# Altium schematic symbol library Symbol_Vlad.SchLib: 330 symbols (part 2 of 3)
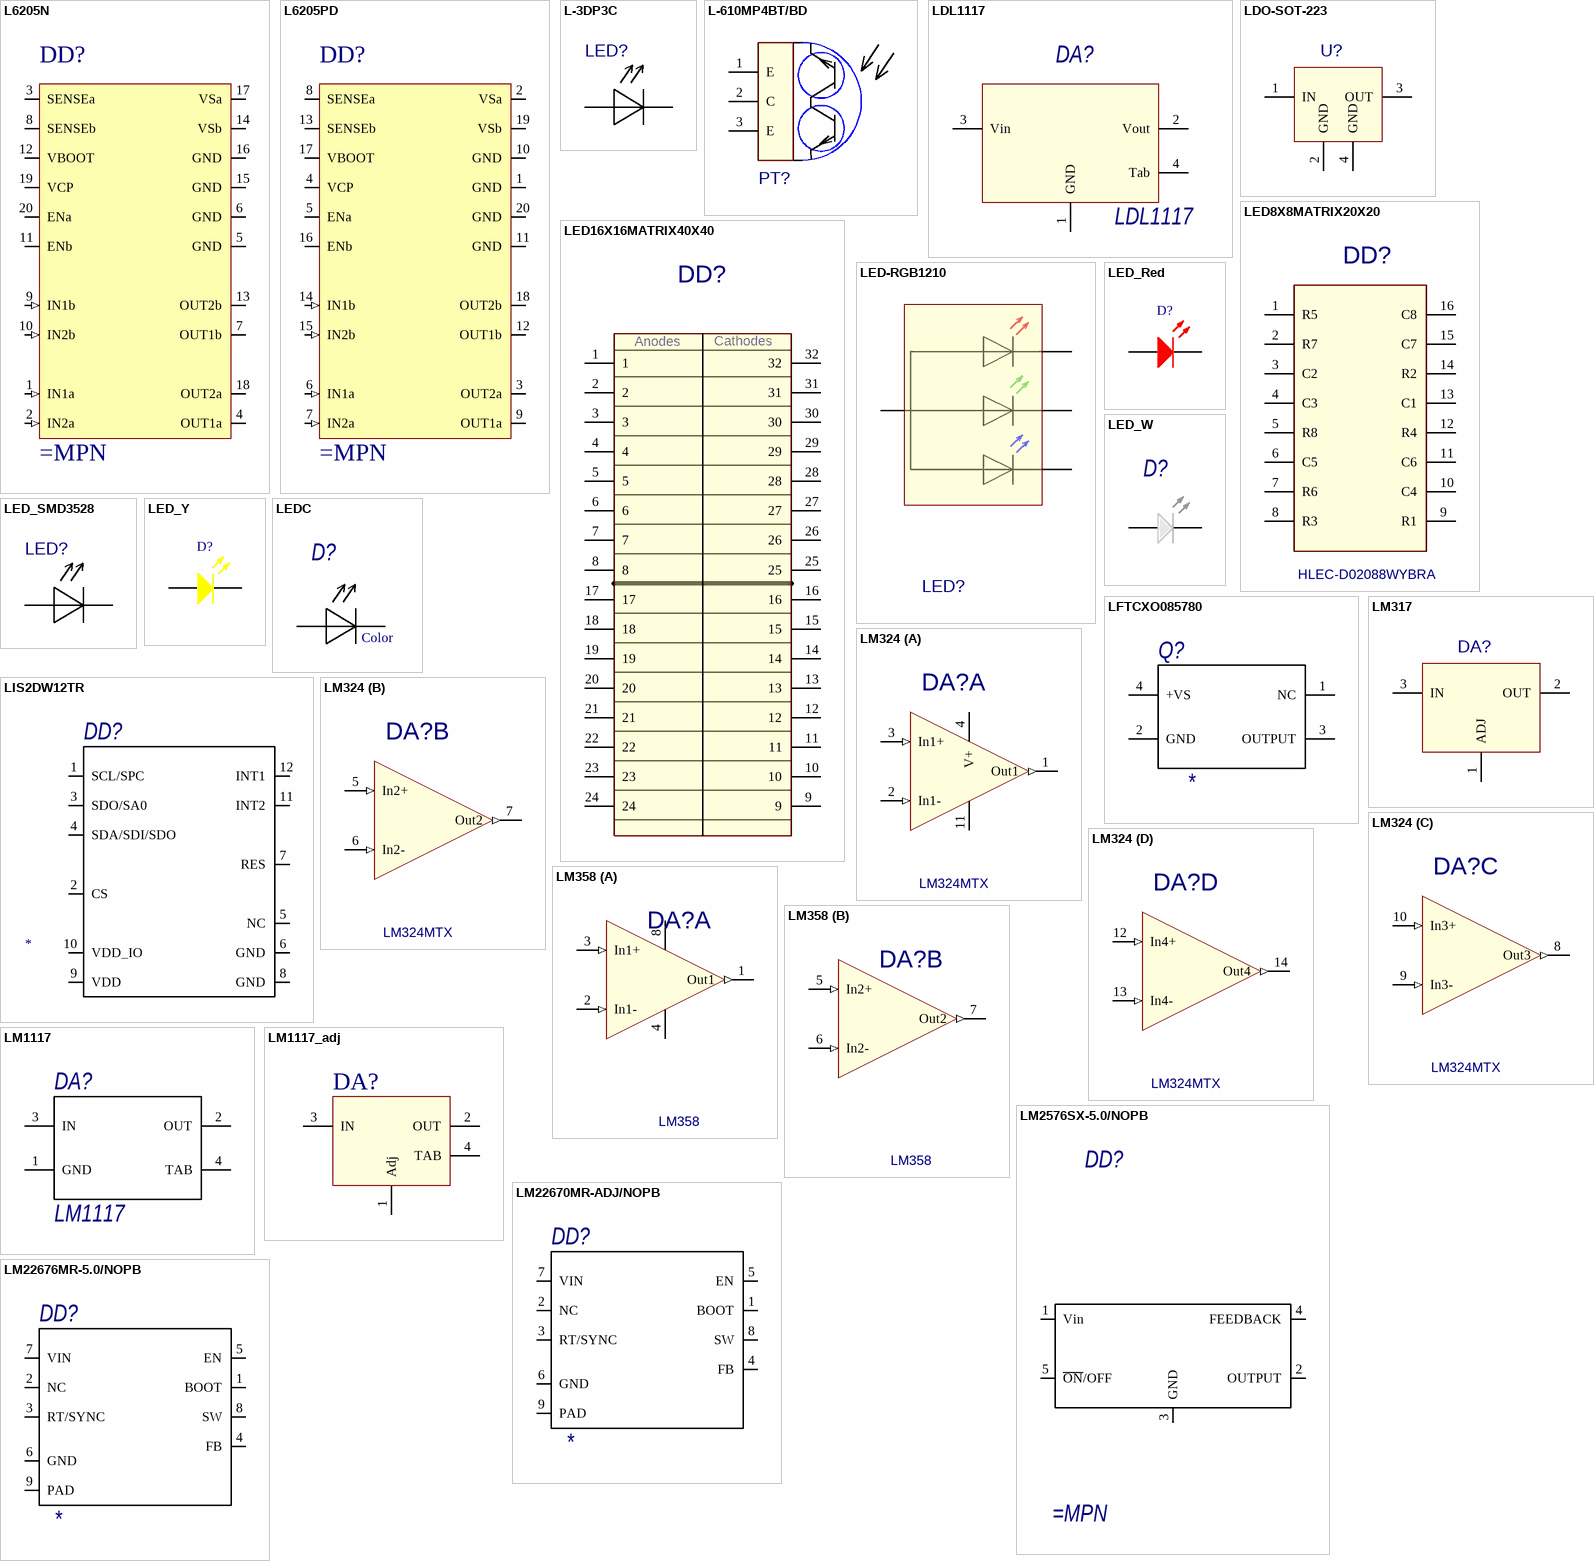
[diagram p30: symbols L6205N to LM22676MR-5.0/NOPB]

## LDL1117
designator DA?
pins: 1 GND, 2 Vout, 3 Vin, 4 Tab

## LDO-SOT-223
designator U?
MntType: SMD; BOMDescription: SMD LDO SOT-223; MSL: MSL 1; Package: SOT-223; RoHS: Comply; PartType: LDO; Pins: 3
footprint SOT-223
pins: 1 IN, 2 GND, 3 OUT, 4 GND

## LED8X8MATRIX20X20
designator DD?, comment HLEC-D02088WYBRA
Manufacturer: HLEC.com.cn; MntType: DIP; BOMDescription: DIP LED MATRIX LED8X8MATRIX20X20     HLEC-D02088WYBRA; MPN: HLEC-D02088WYBRA; MSL: MSL 5; Package: LED8X8MATRIX20X20; RoHS: Comply; PartType: LED MATRIX
footprint LED8X8MATRIX20X20
pins: 1 R5, 2 R7, 3 C2, 4 C3, 5 R8, 6 C5, 7 R6, 8 R3, 9 R1, 10 C4, 11 C6, 12 R4, 13 C1, 14 R2, 15 C7, 16 C8

## LED16X16MATRIX40X40
designator DD?
MntType: DIP; BOMDescription: DIP LED MATRIX LED16X16MATRIX40X40; MSL: MSL 5; Package: LED16X16MATRIX40X40; RoHS: Comply; PartType: LED MATRIX
footprint LED16X16MATRIX40X40
pins: 1, 2, 3, 4, 5, 6, 7, 8, 9, 10, 11, 12, 13, 14, 15, 16, 17, 18, 19, 20, 21, 22, 23, 24, 25, 26, 27, 28, 29, 30, 31, 32
text: Anodes; Cathodes

## LED-RGB1210
designator LED?
MntType: SMD; BOMDescription: SMD CHIP LED LEDC1210; MSL: MSL 5; Package: LEDC1210; RoHS: Comply; PartType: CHIP LED; Pins: 6
footprint LED_1210RGB
pins: 1 A, 2 R, 3 G, 4 B

## LED_Red
designator D?
Typical GaAs LED
pins: 1 A, 2 K

## LED_SMD3528
designator LED?
MntType: SMD; BOMDescription: SMD CHIP LED LEDC3528; MSL: MSL 5; Package: LEDC3528; RoHS: Comply; PartType: CHIP LED; Pins: 2
footprint LED_SMD3528
pins: 1, 2

## LED_W
designator D?
Typical GaAs LED
pins: 1 A, 2 K

## LED_Y
designator D?
Typical GaAs LED
pins: 1 A, 2 K

## LEDC
designator D?, comment Color
MntType: SMD; MSL: MSL 5; RoHS: Comply; PartType: CHIP LED; Pins: 2; BOMDescription: =MntType+' '+PartType+' '+Package+' '+Value+' '+Tolerance+' '+Voltage+' '+TempCoeff+' '+MPN; Value: Color
footprint LED603
footprint LED0805
pins: 1 A, 2 K

## LFTCXO085780
designator Q?
No Description Available; MPN: *; Datasheet: *
footprint LFTCXO_IQD
pins: 1 NC, 2 GND (power), 3 OUTPUT, 4 +VS (power)

## LIS2DW12TR
designator DD?
pins: 1 SCL/SPC, 2 CS "SPI enable I2C/SPI mode selection (1: SPI idle mode / I2C communication enabled; 0: SPI communication mode / I2C disabled)", 3 SDO/SA0, 4 SDA/SDI/SDO, 5 NC "Connect to GND", 6 GND (power) "0 V supply", 7 RES (power) "0 V supply", 8 GND (power) "0 V supply", 9 VDD (power) "Power supply", 10 VDD_IO (power) "Power supply for I/O pins", 11 INT2 "Interrupt pin 2", 12 INT1 "Interrupt pin 1"

## LM317
designator DA?  (value not drawn)
MntType: SMD; BOMDescription: SMD LDO      LM317; MPN: LM317; MSL: MSL 1; RoHS: Comply; PartType: LDO
footprint PLS3
pins: 1 ADJ, 2 OUT, 3 IN

## LM324
designator DA?, comment LM324MTX
MntType: SMD; BOMDescription: SMD INSTRUMENTAL OPAMP TSSOP14     LM324MTX; MPN: LM324MTX; MSL: MSL 1; Package: TSSOP14; RoHS: Comply; PartType: INSTRUMENTAL OPAMP; Pins: 8
footprint TSOP65P640X120-14L (TSOP, 14-Leads, Body 5.00x4.40mm, Pitch 0.65mm, IPC High Density)
footprint SOIC-14 (SOIC, 14-Leads, Body 8.65x3.90mm, Pitch 1.27mm, IPC High Density)
part A pins: 1 Out1 (out), 2 In1- (in), 3 In1+ (in), 4 V+ (power), 11 GND (power)
part B pins: 5 In2+ (in), 6 In2- (in), 7 Out2 (out)
part C pins: 8 Out3 (out), 9 In3- (in), 10 In3+ (in)
part D pins: 12 In4+ (in), 13 In4- (in), 14 Out4 (out)

## LM358
designator DA?
MntType: SMD; BOMDescription: SMD INSTRUMENTAL OPAMP TSSOP14     LM358; MPN: LM358; MSL: MSL 1; Package: TSSOP14; RoHS: Comply; PartType: INSTRUMENTAL OPAMP; Pins: 8
footprint TSOP65P640X120-8L (TSOP, 8-Leads, Body 3.00x4.40mm, Pitch 0.65mm, IPC High Density)
part A pins: 1 Out1 (out), 2 In1- (in), 3 In1+ (in), 4 GND (power), 8 V+ (power)
part B pins: 5 In2+ (in), 6 In2- (in), 7 Out2 (out)

## LM1117
designator DA?
MntType: SMD; BOMDescription: =MntType+' '+PartType+' '+Package+' '+Value+' '+Tolerance+' '+Voltage+' '+TempCoeff+' '+MPN; MPN: LM1117; MSL: MSL 1; PartType: LDO; Pins: 4; RoHS: Comply
pins: 1 GND, 2 OUT, 3 IN, 4 TAB

## LM1117_adj
designator DA?
MPN: LM1117; MntType: SMD; BOMDescription: =MntType+' '+PartType+' '+Package+' '+Value+' '+Tolerance+' '+Voltage+' '+TempCoeff+' '+MPN; MSL: MSL 1; PartType: LDO; Pins: 4; RoHS: Comply
pins: 1 Adj, 2 OUT, 3 IN, 4 TAB

## LM2576SX-5.0/NOPB
designator DD?
pins: 1 Vin, 2 OUTPUT, 3 GND, 4 FEEDBACK, 5 ~{ON}/OFF

## LM22670MR-ADJ/NOPB
designator DD?
pins: 1 BOOT, 2 NC, 3 RT/SYNC, 4 FB, 5 EN, 6 GND, 7 VIN, 8 SW, 9 PAD

## LM22676MR-5.0/NOPB
designator DD?
pins: 1 BOOT, 2 NC, 3 RT/SYNC, 4 FB, 5 EN, 6 GND, 7 VIN, 8 SW, 9 PAD

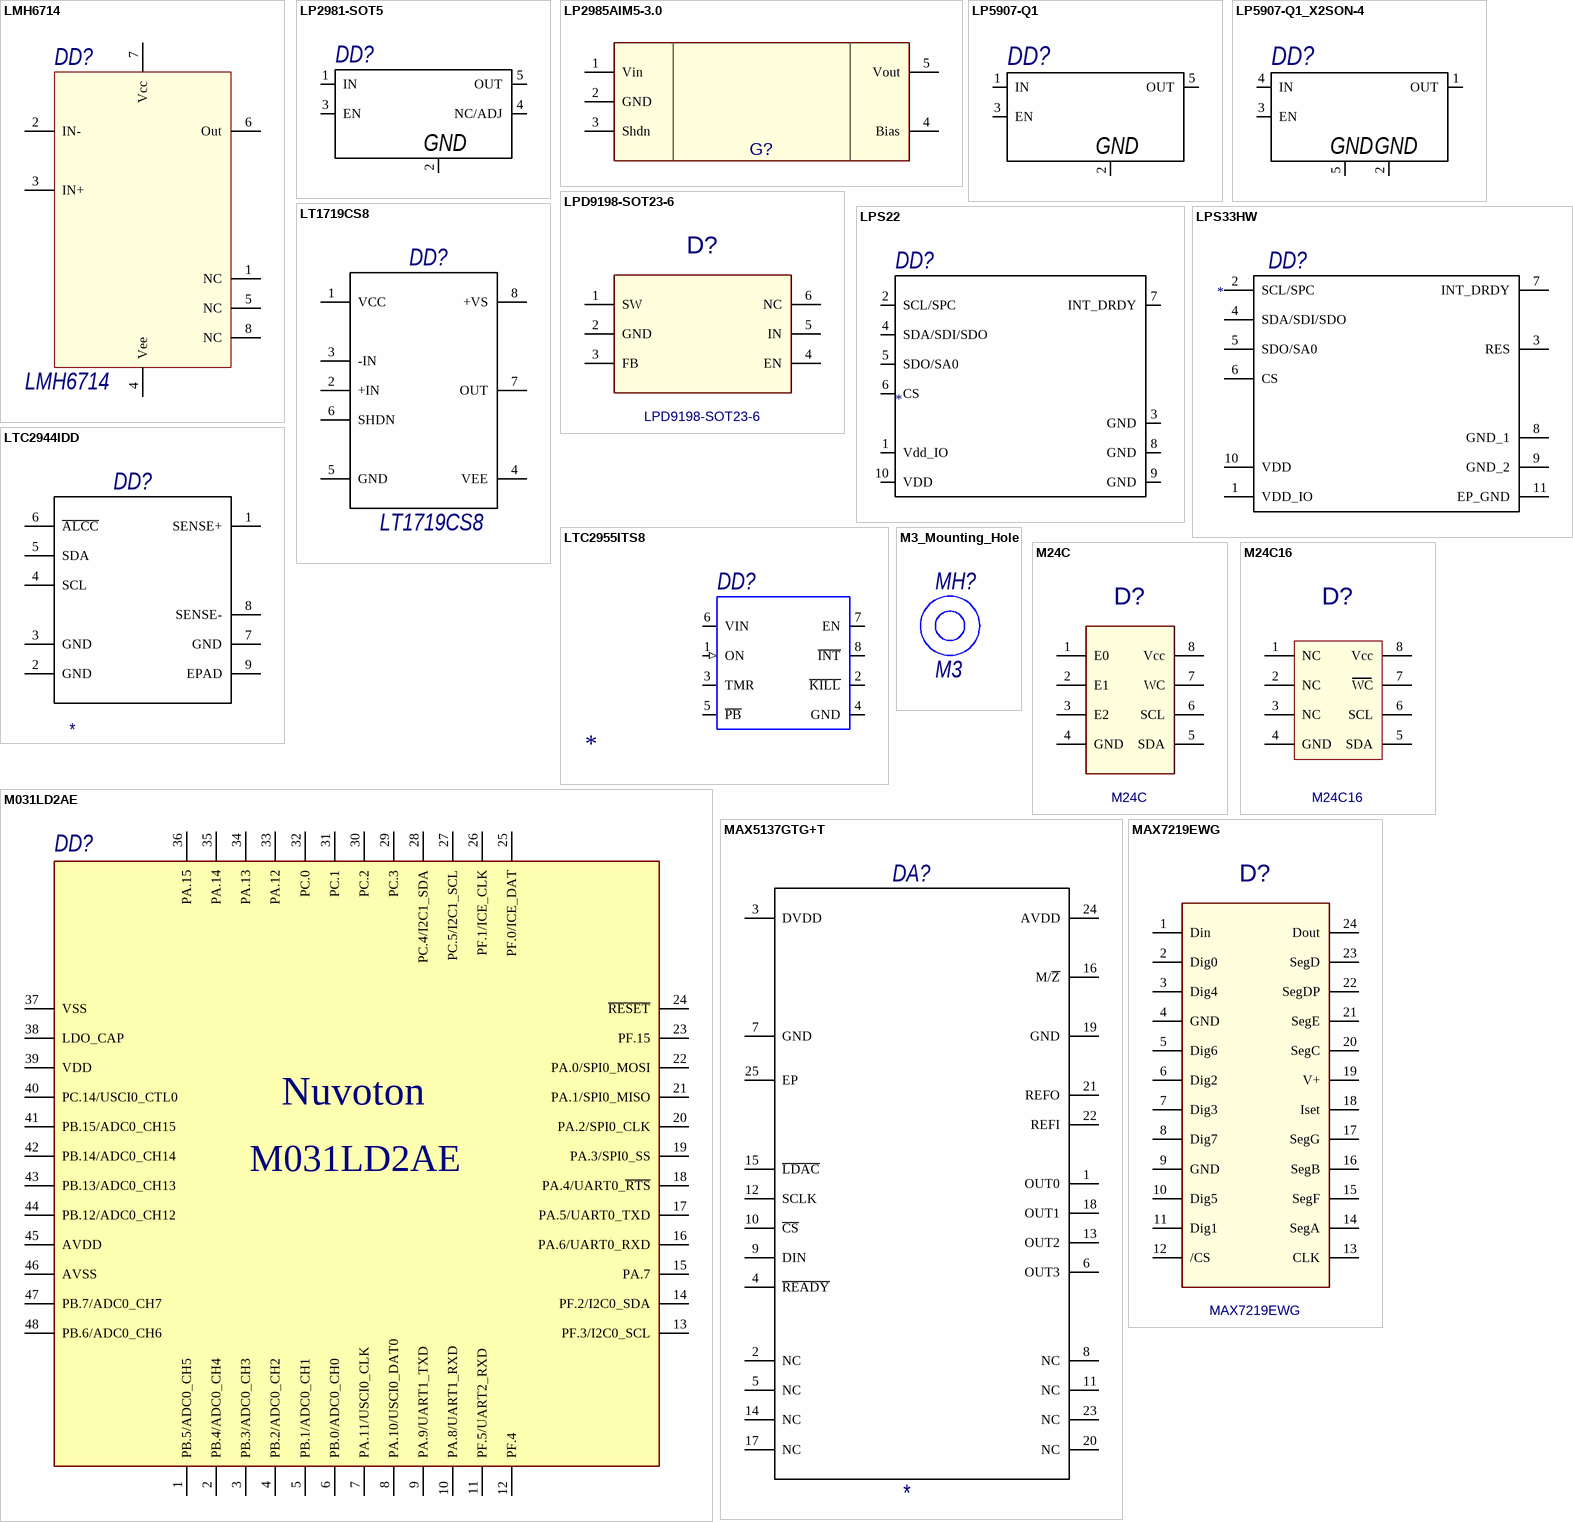
[diagram p16: symbols LMH6714 to MAX7219EWG]

## LMH6714
designator DD?
pins: 1 NC, 2 IN-, 3 IN+, 4 Vee, 5 NC, 6 Out, 7 Vcc, 8 NC

## LP2981-SOT5
designator DD?
pins: 1 IN (power), 2 GND (power), 3 EN, 4 NC/ADJ, 5 OUT (power)

## LP2985AIM5-3.0
designator G?
Manufacturer: TI; MPN: LP2985AIM5-3.0; MntType: SMD; BOMDescription: SMD LOW DROP LDO SOT23-5     LP2985AIM5-3.0; MSL: MSL 1; Package: SOT23-5; RoHS: Comply; PartType: LOW DROP LDO; Pins: 5
footprint SOT-23-5
pins: 1 Vin, 2 GND, 3 Shdn, 4 Bias, 5 Vout

## LP5907-Q1
designator DD?  (value not drawn)
pins: 1 IN (power), 2 GND (power), 3 EN, 5 OUT (power)

## LP5907-Q1_X2SON-4
designator DD?  (value not drawn)
pins: 1 OUT (power), 2 GND (power), 3 EN, 4 IN (power), 5 GND (power)

## LPD9198-SOT23-6
designator D?
MntType: SMD; MSL: MSL 1; RoHS: Comply; BOMDescription: SMD
footprint LPD9198-SOT23-6
pins: 1 SW, 2 GND, 3 FB, 4 EN, 5 IN, 6 NC

## LPS22
designator DD?
pins: 1 Vdd_IO, 2 SCL/SPC, 3 GND, 4 SDA/SDI/SDO, 5 SDO/SA0, 6 CS, 7 INT_DRDY, 8 GND, 9 GND, 10 VDD

## LPS33HW
designator DD?
pins: 1 VDD_IO, 2 SCL/SPC, 3 RES, 4 SDA/SDI/SDO, 5 SDO/SA0, 6 CS, 7 INT_DRDY, 8 GND_1, 9 GND_2, 10 VDD, 11 EP_GND

## LT1719CS8
designator DD?
Comparator; Generic Part Number: LT1719; Manufacturer: Linear Technology; Vos (mV) Guaranteed: 2.5; Vos (mV) Typical: 0.4; Supply Voltage Range: 2.7 to 10.5 V; Channels (#): 1; Vs Min (V): 2.7; Vs Max (V): 10.5; Supply Current (uA) Typical: 4200; Prop Delay (us): 0.0042; Features: Comparator, Separate In/Out Power Supply; PartNumber: LT1719CS8; ComponentLink1Description: Manufacturer URL; ComponentLink2URL: http://cds.linear.com/docs/en/datasheet/1719fa.pdf; PackageDescription: 8-Pin Plastic Small Outline (Narrow .150 Inch), Body 4.9 x 3.9 mm, Pitch 1.27 mm; RoHS: N; ComponentLink3Description: Package Specification; Mounting Technology: Surface Mount; ComponentLink2Description: Datasheet; ComponentLink1URL: http://www.linear.com/; DatasheetVersion: Rev A; PackageReference: S8; ComponentLink3URL: http://cds.linear.com/docs/en/packaging/05081610_G_SO8.pdf
footprint LT-S8_L (SOP, 8-Leads, Body 4.9x3.9mm, Pitch 1.27mm, IPC High Density)
footprint LT-S8_M (SOP, 8-Leads, Body 4.9x3.9mm, Pitch 1.27mm, IPC Low Density)
footprint LT-S8_N (SOP, 8-Leads, Body 4.9x3.9mm, Pitch 1.27mm, IPC Medium Density)
pins: 1 VCC (power) "Positive Supply Voltage for Input Stage.", 2 +IN "Noninverting Input of Comparator.", 3 -IN "Inverting Input of Comparator.", 4 VEE (power) "Negative Supply Voltage for Input Stage and Chip Substrate.", 5 GND (power) "Ground.", 6 SHDN "Shutdown. Pull to ground to enable comparator.", 7 OUT "Output of Comparator.", 8 +VS (power) "Positive Supply Voltage for Output Stage."

## LTC2944IDD
designator DD?
60V Battery Gauge; MPN: *
pins: 1 SENSE+, 2 GND, 3 GND, 4 SCL, 5 SDA, 6 ~{ALCC}, 7 GND, 8 SENSE-, 9 EPAD

## LTC2955ITS8
designator DD?
pins: 1 ON (in) "Monitor Input. Connect this pin to an external resistive divider from the monitored voltage. This allows automatic system turn-on when the monitored voltage transitions high. For the DFN part, if the SEL pin is tied high, it (See Datasheet)", 2 ~{KILL} "Kill Input. A low at K\I\L\L\ releases the enable output (EN/E\N\). This pin can be driven by the microprocessor or it can be used as a voltage monitor input. Tie to the system power supply or an external voltage of 1.2V~5V (See Datasheet)", 3 TMR "Timer Pin. A capacitor to ground determines the additional time (5.2 seconds/uF) beyond the default 64ms that the pushbutton must be held low before immediately releasing the EN/E\N\ and I\N\T\ outputs. The turn-off debounce (See Datasheet)", 4 GND (power) "Device Ground.", 5 ~{PB} "Pushbutton Input. This is an active low input with a 900k pull-up to an internal LDO. Connect one terminal of the pushbutton to this pin and connect the other terminal of the pushbutton to GND. The pin may be left open if (See Datasheet)", 6 VIN (power) "Power Supply Input. For > 20V applications, connect VIN to the power source through a 1k resistor and bypass VIN to GND with a 10nF low ESR capacitor.", 7 EN (oc) "Enable Output (LTC2955-1). EN is an active high output to control the turn-on/off of the system power. Connect this pin to the RUN or S\H\U\T\D\O\W\N\ pin of the voltage regulator. The LTC2955 asserts EN high when the (See Datasheet)", 8 ~{INT} (oc) "Open Drain Interrupt Output. Connect this pin to the interrupt input of the system with a pull-up resistor to the system supply. The LTC2955 asserts the I\N\T\ pin low when it receives the turn-off command from the (See Datasheet)"

## M3_Mounting_Hole
designator MH?, comment M3

## M24C
designator D?
MntType: SMD; BOMDescription: SMD EEPROM SO-8     M24C; MPN: M24C; MSL: MSL 1; Package: SO-8; RoHS: Comply; PartType: EEPROM; Pins: 8
footprint SO-8
pins: 1 E0, 2 E1, 3 E2, 4 GND, 5 SDA, 6 SCL, 7 WC, 8 Vcc

## M24C16
designator D?
MntType: SMD; BOMDescription: SMD INSTRUMENTAL OPAMP TSSOP8     M24C16; MPN: M24C16; MSL: MSL 1; Package: TSSOP8; RoHS: Comply; PartType: INSTRUMENTAL OPAMP; Pins: 8
footprint SO-8
footprint TSOP8 (IPC) (TSOP, 8-Leads, Body 3.00x4.40mm, Pitch 0.65mm, IPC High Density)
pins: 1 NC, 2 NC, 3 NC, 4 GND, 5 SDA, 6 SCL, 7 WC, 8 Vcc

## M031LD2AE
designator DD?
pins: 1 PB.5/ADC0_CH5, 2 PB.4/ADC0_CH4, 3 PB.3/ADC0_CH3, 4 PB.2/ADC0_CH2, 5 PB.1/ADC0_CH1, 6 PB.0/ADC0_CH0, 7 PA.11/USCI0_CLK, 8 PA.10/USCI0_DAT0, 9 PA.9/UART1_TXD, 10 PA.8/UART1_RXD, 11 PF.5/UART2_RXD, 12 PF.4, 13 PF.3/I2C0_SCL, 14 PF.2/I2C0_SDA, 15 PA.7, 16 PA.6/UART0_RXD, 17 PA.5/UART0_TXD, 18 PA.4/UART0_~{RTS}, 19 PA.3/SPI0_SS, 20 PA.2/SPI0_CLK, 21 PA.1/SPI0_MISO, 22 PA.0/SPI0_MOSI, 23 PF.15, 24 ~{RESET}, 25 PF.0/ICE_DAT, 26 PF.1/ICE_CLK, 27 PC.5/I2C1_SCL, 28 PC.4/I2C1_SDA, 29 PC.3, 30 PC.2, 31 PC.1, 32 PC.0, 33 PA.12, 34 PA.13, 35 PA.14, 36 PA.15, 37 VSS (power), 38 LDO_CAP (power), 39 VDD (power), 40 PC.14/USCI0_CTL0, 41 PB.15/ADC0_CH15, 42 PB.14/ADC0_CH14, 43 PB.13/ADC0_CH13, 44 PB.12/ADC0_CH12, 45 AVDD (power), 46 AVSS (power), 47 PB.7/ADC0_CH7, 48 PB.6/ADC0_CH6
text: Nuvoton

## MAX5137GTG+T
designator DA?
No Description Available; MPN: *; Datasheet: *
pins: 1 OUT0, 2 NC, 3 DVDD, 4 ~{READY}, 5 NC, 6 OUT3, 7 GND, 8 NC, 9 DIN, 10 ~{CS}, 11 NC, 12 SCLK, 13 OUT2, 14 NC, 15 ~{LDAC}, 16 M/~{Z}, 17 NC, 18 OUT1, 19 GND, 20 NC, 21 REFO, 22 REFI, 23 NC, 24 AVDD, 25 EP

## MAX7219EWG
designator D?
Manufacturer: Maxim; MntType: SMD; BOMDescription: SMD LED DRIVER SOIC-24     MAX7219EWG; MPN: MAX7219EWG; MSL: MSL 1; Package: SOIC-24; RoHS: Comply; PartType: LED DRIVER
footprint SOIC-24(IPC) (SOIC, 24-Leads, Body 15.40x7.50mm, Pitch 1.27mm, IPC High Density)
footprint SOIC-24(IPC L) (SOIC, 24-Leads, Body 15.40x7.50mm, Pitch 1.27mm, IPC High Density)
pins: 1 Din, 2 Dig0, 3 Dig4, 4 GND, 5 Dig6, 6 Dig2, 7 Dig3, 8 Dig7, 9 GND, 10 Dig5, 11 Dig1, 12 /CS, 13 CLK, 14 SegA, 15 SegF, 16 SegB, 17 SegG, 18 Iset, 19 V+ (power), 20 SegC, 21 SegE, 22 SegDP, 23 SegD, 24 Dout

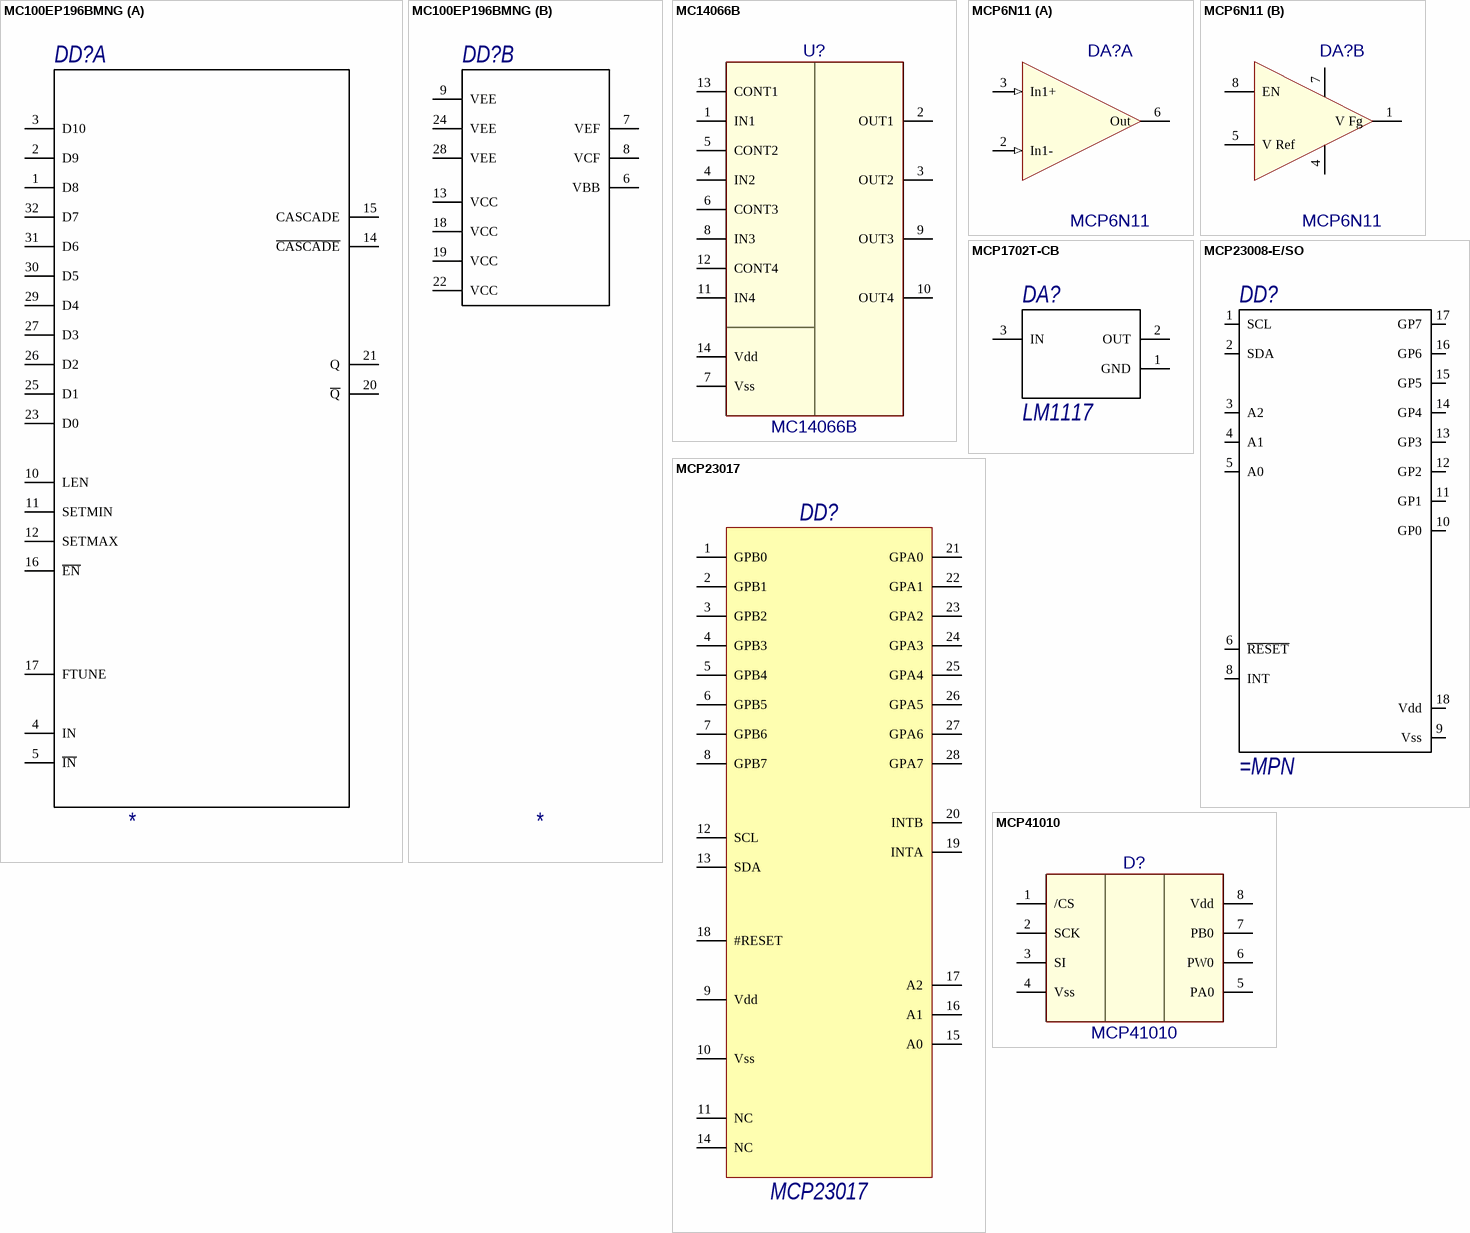
[diagram p17: symbols MC100EP196BMNG to MCP41010]

## MC100EP196BMNG
designator DD?
MPN: *
part A pins: 1 D8, 2 D9, 3 D10, 4 IN, 5 ~{IN}, 10 LEN, 11 SETMIN, 12 SETMAX, 14 ~{CASCADE}, 15 CASCADE, 16 ~{EN}, 17 FTUNE, 20 ~{Q}, 21 Q, 23 D0, 25 D1, 26 D2, 27 D3, 29 D4, 30 D5, 31 D6, 32 D7
part B pins: 6 VBB, 7 VEF, 8 VCF, 9 VEE, 13 VCC, 18 VCC, 19 VCC, 22 VCC, 24 VEE, 28 VEE

## MC14066B
designator U?
Manufacturer: ON; MntType: SMD; BOMDescription: SMD QUAD SWITCH/MULTIPLEXER SO14     MC14066B; MPN: MC14066B; MSL: MSL 1; Package: SO14; RoHS: Comply; PartType: QUAD SWITCH/MULTIPLEXER; Pins: 14
footprint SO14
pins: 1 IN1, 2 OUT1, 3 OUT2, 4 IN2, 5 CONT2, 6 CONT3, 7 Vss (power), 8 IN3, 9 OUT3, 10 OUT4, 11 IN4, 12 CONT4, 13 CONT1, 14 Vdd (power)

## MCP6N11
designator DA?
Manufacturer: MICROCHIP; MntType: SMD; BOMDescription: SMD OPERATIONAL AMPLIFIER SOIC-8     MCP6N11; MPN: MCP6N11; MSL: MSL 1; Package: SOIC-8; RoHS: Comply; PartType: OPERATIONAL AMPLIFIER; Pins: 8
footprint SOIC127P600X175-8L (SOIC, 8-Leads, Body 4.90x3.90mm, Pitch 1.27mm, IPC High Density)
footprint SO-8
part A pins: 2 In1- (in), 3 In1+ (in), 6 Out
part B pins: 1 V Fg, 4 GND (power), 5 V Ref, 7 Vdd, 8 EN (power)

## MCP1702T-CB
designator DA?, comment LM1117
MntType: SMD; BOMDescription: =MntType+' '+PartType+' '+Package+' '+Value+' '+Tolerance+' '+Voltage+' '+TempCoeff+' '+MPN; MPN: LM1117; MSL: MSL 1; PartType: LDO; Pins: 4; RoHS: Comply
pins: 1 GND, 2 OUT, 3 IN

## MCP23008-E/SO
designator DD?
pins: 1 SCL, 2 SDA, 3 A2, 4 A1, 5 A0, 6 ~{RESET}, 8 INT, 9 Vss, 10 GP0, 11 GP1, 12 GP2, 13 GP3, 14 GP4, 15 GP5, 16 GP6, 17 GP7, 18 Vdd

## MCP23017
designator DD?
pins: 1 GPB0, 2 GPB1, 3 GPB2, 4 GPB3, 5 GPB4, 6 GPB5, 7 GPB6, 8 GPB7, 9 Vdd, 10 Vss, 11 NC, 12 SCL, 13 SDA, 14 NC, 15 A0, 16 A1, 17 A2, 18 #RESET, 19 INTA, 20 INTB, 21 GPA0, 22 GPA1, 23 GPA2, 24 GPA3, 25 GPA4, 26 GPA5, 27 GPA6, 28 GPA7

## MCP41010
designator D?
Manufacturer: MICROCHIP; MntType: SMD; BOMDescription: SMD DIGITAL POTENTIOMETER SO-8     MCP41010; MPN: MCP41010; MSL: MSL 1; Package: SO-8; RoHS: Comply; PartType: DIGITAL POTENTIOMETER; Pins: 8
footprint SO-8
pins: 1 /CS, 2 SCK, 3 SI, 4 Vss, 5 PA0, 6 PW0, 7 PB0, 8 Vdd (power)

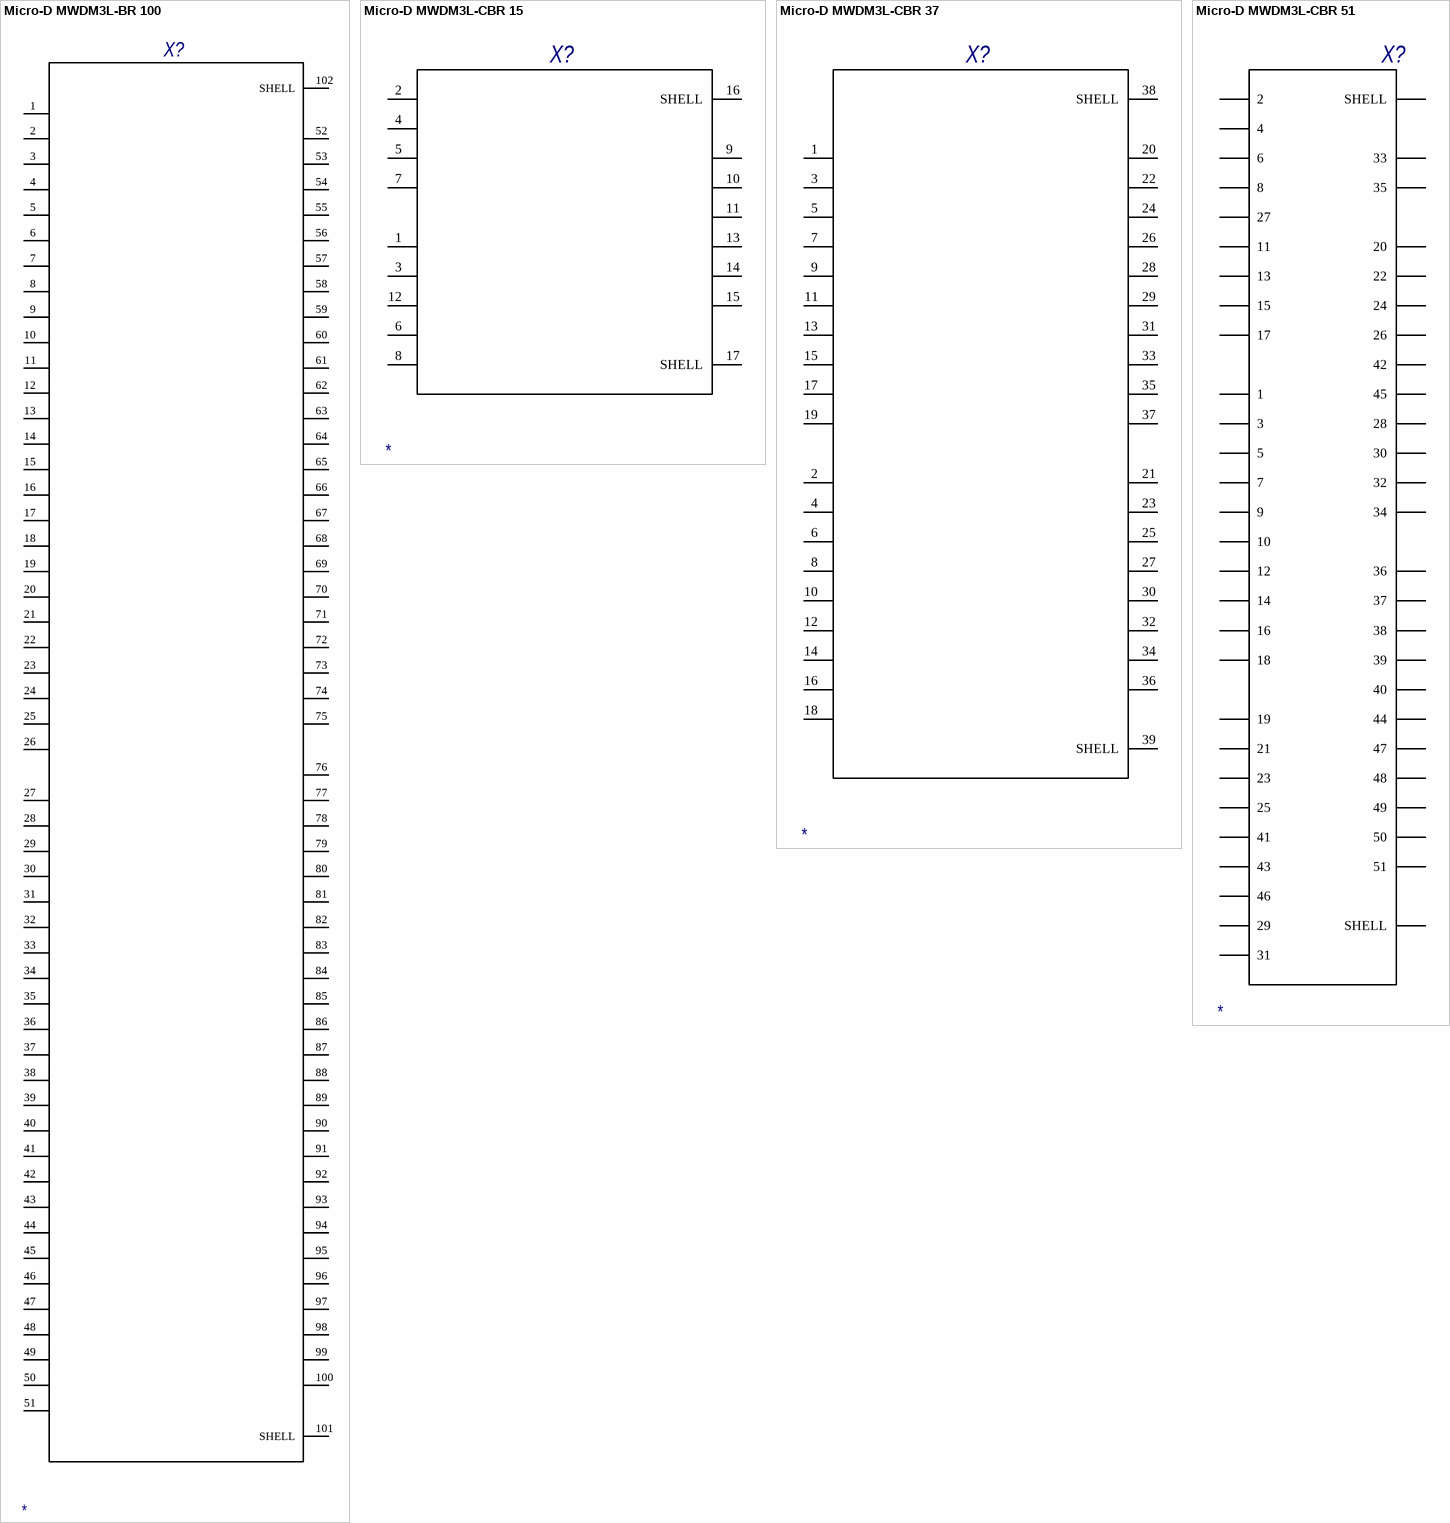
[diagram p18: symbols Micro-D MWDM3L-BR 100 to Micro-D MWDM3L-CBR 51]

## Micro-D MWDM3L-BR 100
designator X?
Right Angle TH Micro-D MWDM-CBR 100 Pin; MPN: *
pins: 1, 2, 3, 4, 5, 6, 7, 8, 9, 10, 11, 12, 13, 14, 15, 16, 17, 18, 19, 20, 21, 22, 23, 24, 25, 26, 27, 28, 29, 30, 31, 32, 33, 34, 35, 36, 37, 38, 39, 40, 41, 42, 43, 44, 45, 46, 47, 48, 49, 50, 51, 52, 53, 54, 55, 56, 57, 58, 59, 60, 61, 62, 63, 64, 65, 66, 67, 68, 69, 70, 71, 72, 73, 74, 75, 76, 77, 78, 79, 80, 81, 82, 83, 84, 85, 86, 87, 88, 89, 90, 91, 92, 93, 94, 95, 96, 97, 98, 99, 100, 101 SHELL, 102 SHELL

## Micro-D MWDM3L-CBR 15
designator X?
Right Angle TH Micro-D MWDM-CBR 15 Pin; MPN: *
pins: 1, 2, 3, 4, 5, 6, 7, 8, 9, 10, 11, 12, 13, 14, 15, 16 SHELL, 17 SHELL

## Micro-D MWDM3L-CBR 37
designator X?
Right Angle TH Micro-D MWDM-CBR 37 Pin; MPN: *
pins: 1, 2, 3, 4, 5, 6, 7, 8, 9, 10, 11, 12, 13, 14, 15, 16, 17, 18, 19, 20, 21, 22, 23, 24 gggggggg, 25, 26, 27, 28, 29, 30, 31, 32, 33, 34, 35, 36, 37, 38 SHELL, 39 SHELL

## Micro-D MWDM3L-CBR 51
designator X?
Right Angle TH Micro-D MWDM-CBR 51 Pin; MPN: *
pins: 1, 2, 3, 4, 5, 6, 7, 8, 9, 10, 11, 12, 13, 14, 15, 16, 17, 18, 19, 20, 21, 22, 23, 24, 25, 26, 27, 28, 29, 30, 31, 32, 33, 34, 35, 36, 37, 38, 39, 40, 41, 42, 43, 44, 45, 46, 47, 48, 49, 50, 51, 52 SHELL, 53 SHELL

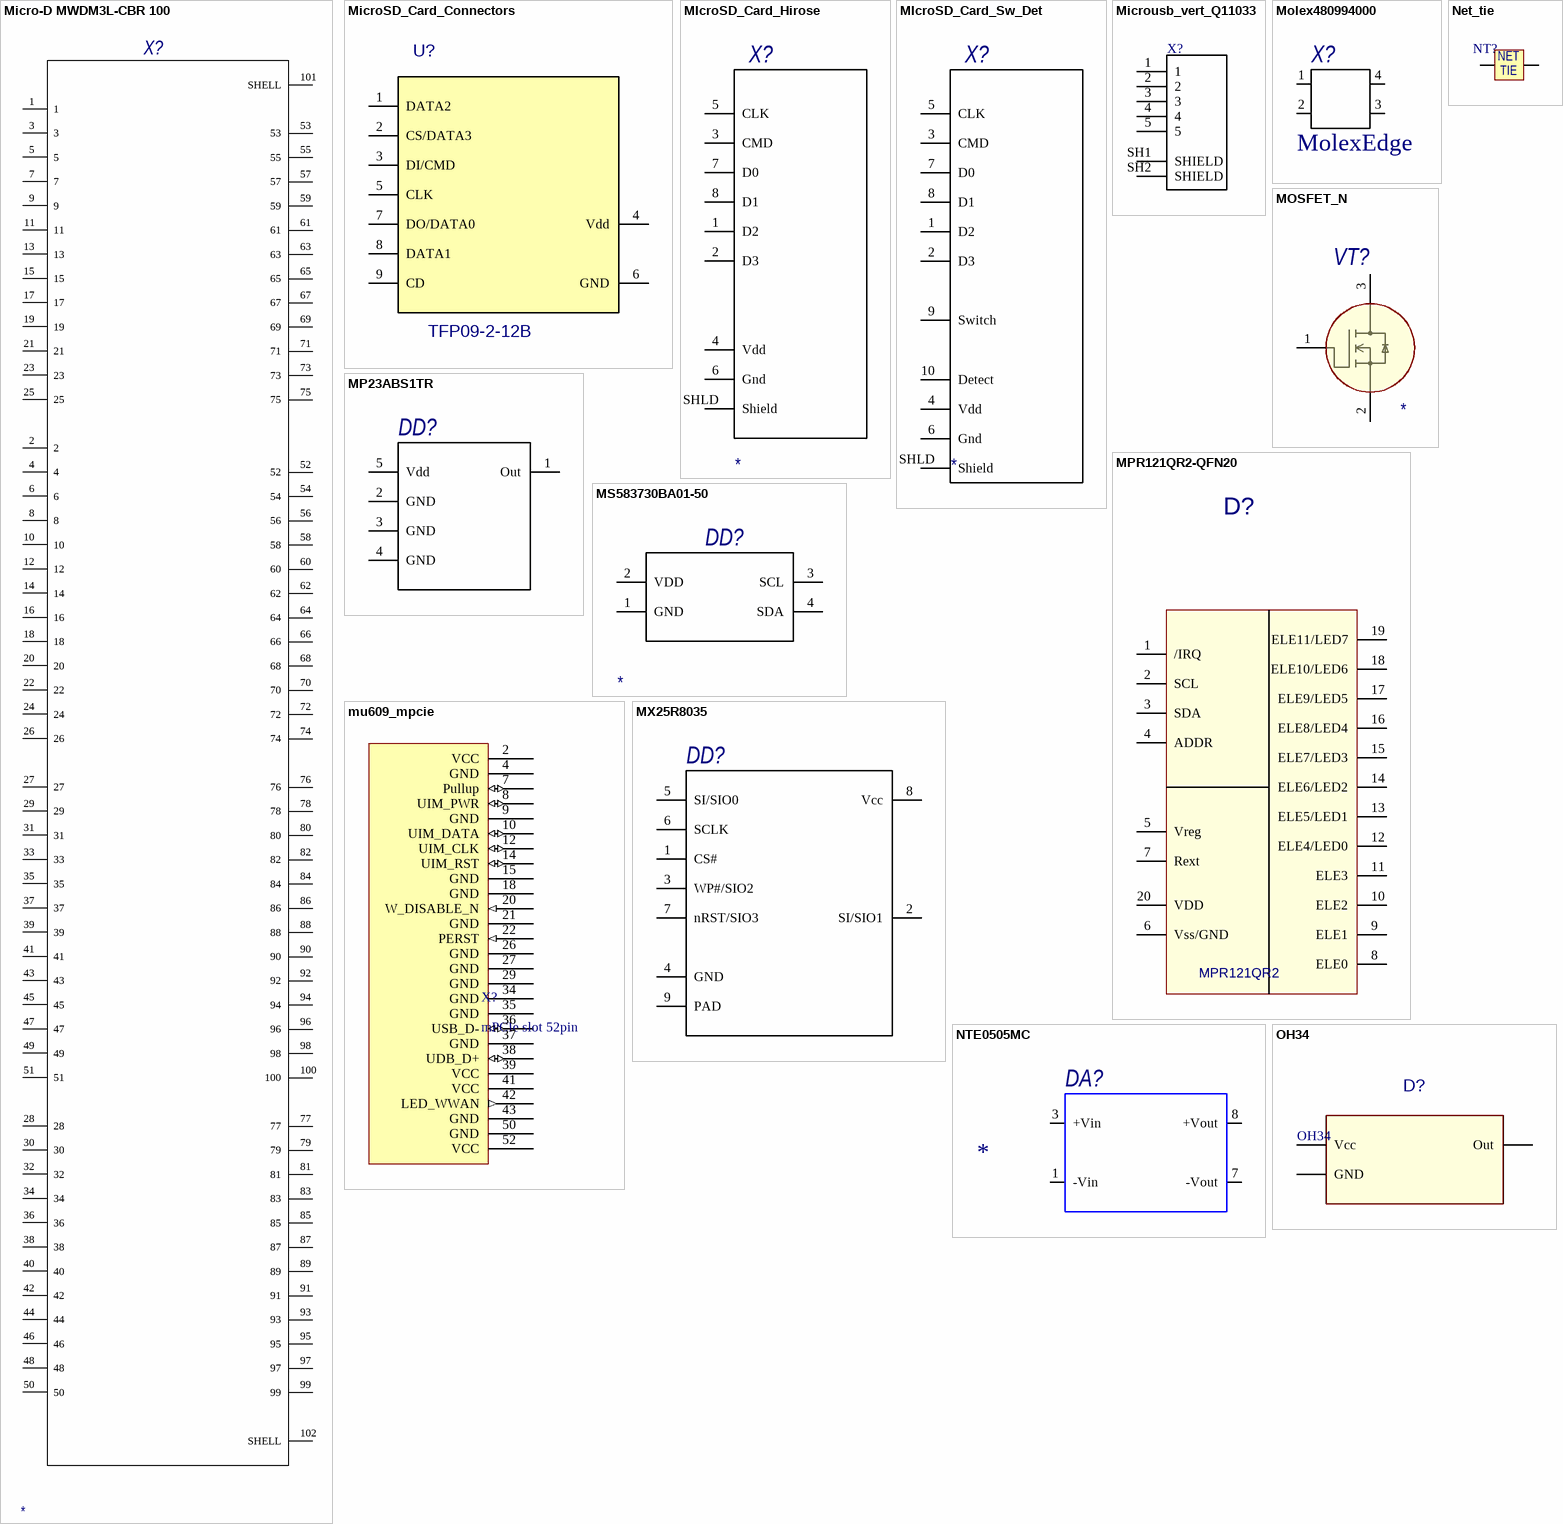
[diagram p19: symbols Micro-D MWDM3L-CBR 100 to OH34]

## Micro-D MWDM3L-CBR 100
designator X?
Right Angle TH Micro-D MWDM-CBR 100 Pin; MPN: *
pins: 1, 2, 3, 4, 5, 6, 7, 8, 9, 10, 11, 12, 13, 14, 15, 16, 17, 18, 19, 20, 21, 22, 23, 24, 25, 26, 27, 28, 29, 30, 31, 32, 33, 34, 35, 36, 37, 38, 39, 40, 41, 42, 43, 44, 45, 46, 47, 48, 49, 50, 51, 52, 53, 54, 55, 56, 57, 58, 59, 60, 61, 62, 63, 64, 65, 66, 67, 68, 69, 70, 71, 72, 73, 74, 75, 76, 77, 78, 79, 80, 81, 82, 83, 84, 85, 86, 87, 88, 89, 90, 91, 92, 93, 94, 95, 96, 97, 98, 99, 100, 101 SHELL, 102 SHELL

## MicroSD_Card_Connectors
designator U?, comment TFP09-2-12B
BOMDescription: SMD CONNECTOR MicroSD     TFP09-2-12B; MntType: SMD; MSL: MSL 1; Package: MicroSD; PartType: CONNECTOR; RoHS: Comply; MPN: TFP09-2-12B
pins: 1 DATA2, 2 CS/DATA3, 3 DI/CMD, 4 Vdd, 5 CLK, 6 GND, 7 DO/DATA0, 8 DATA1, 9 CD

## MIcroSD_Card_Hirose
designator X?
MPN: *
pins: 1 D2, 2 D3, 3 CMD, 4 Vdd, 5 CLK, 6 Gnd, 7 D0, 8 D1, SHLD Shield

## MIcroSD_Card_Sw_Det
designator X?
MPN: *
pins: 1 D2, 2 D3, 3 CMD, 4 Vdd, 5 CLK, 6 Gnd, 7 D0, 8 D1, 9 Switch, 10 Detect, SHLD Shield

## Microusb_vert_Q11033
designator X?  (value not drawn)
USB - micro B USB 2.0 Receptacle Connector 5 Position Through Hole; Value: *
pins: 1, 2, 3, 4, 5, SH1 SHIELD, SH2 SHIELD

## Molex480994000
designator X?, comment MolexEdge  (mechanical)
pins: 1, 2, 3, 4

## MOSFET_N
designator VT?
MPN: *
pins: 1, 2, 3

## MP23ABS1TR
designator DD?  (value not drawn)
pins: 1 Out, 2 GND, 3 GND, 4 GND, 5 Vdd

## MPR121QR2-QFN20
designator D?, comment MPR121QR2
Manufacturer: FREESCALE; MntType: SMD; BOMDescription: SMD CAPSENS CONTROLLER QFN20     MPR121QR2; MPN: MPR121QR2; MSL: MSL 1; Package: QFN20; RoHS: Comply; PartType: CAPSENS CONTROLLER; Pins: 20
footprint QFN-20-3MM
pins: 1 /IRQ, 2 SCL, 3 SDA, 4 ADDR, 5 Vreg, 6 Vss/GND, 7 Rext, 8 ELE0, 9 ELE1, 10 ELE2, 11 ELE3, 12 ELE4/LED0, 13 ELE5/LED1, 14 ELE6/LED2, 15 ELE7/LED3, 16 ELE8/LED4, 17 ELE9/LED5, 18 ELE10/LED6, 19 ELE11/LED7, 20 VDD

## MS583730BA01-50
designator DD?
Digital pressure sensor, 0-30 bar; MPN: *
pins: 1 GND "Ground", 2 VDD "Positive supply", 3 SCL "I2C Clock", 4 SDA "I2C Data"

## mu609_mpcie
designator X?, comment mPCIe slot 52pin
footprint MCPIE
pins: 2 VCC (power), 4 GND (power), 7 Pullup (io), 8 UIM_PWR (io), 9 GND (power), 10 UIM_DATA (io), 12 UIM_CLK (io), 14 UIM_RST (io), 15 GND (power), 18 GND (power), 20 W_DISABLE_N (in), 21 GND (power), 22 PERST (in), 26 GND (power), 27 GND (power), 29 GND (power), 34 GND (power), 35 GND (power), 36 USB_D- (io), 37 GND (power), 38 UDB_D+ (io), 39 VCC (power), 41 VCC (power), 42 LED_WWAN (out), 43 GND (power), 50 GND (power), 52 VCC (power)

## MX25R8035
designator DD?  (value not drawn)
pins: 1 CS#, 2 SI/SIO1, 3 WP#/SIO2, 4 GND, 5 SI/SIO0, 6 SCLK, 7 nRST/SIO3, 8 Vcc, 9 PAD

## Net_tie
designator NT?  (value not drawn)  (net tie, no BOM)
Rule: UNIONINDEX{}0[]RULEKIND{}PolygonConnect[]NETSCOPE{}AnyNet[]LAYERKIND{}SameLayer[]NAME{}Schematic Polygon Connect Style[]CONNECTSTYLE{}Direct[]RELIEFCONDUCTORWIDTH{}10mil[]RELIEFENTRIES{}4[]POLYGONRELIEFANGLE{}45 Angle[]AIRGAPWIDTH{}10mil[]UNIT{}Metric[]PcbType{}ProtelPcb; Rule: UNIONINDEX{}0[]RULEKIND{}PlaneConnect[]NETSCOPE{}AnyNet[]LAYERKIND{}SameLayer[]NAME{}Schematic Power Plane Connect Style[]PLANECONNECTSTYLE{}Direct[]RELIEFEXPANSION{}20mil[]RELIEFENTRIES{}4[]RELIEFCONDUCTORWIDTH{}10mil[]RELIEFAIRGAP{}10mil[]UNIT{}Metric[]PcbType{}ProtelPcb; ClassName: NETTIE
footprint NET_TIE 0.3 (Net Tie 0.3mm width)
footprint NET_TIE 0.5 (Net Tie 0.5mm width)
footprint NET_TIE 1 (Net Tie 1mm width)
footprint NET_TIE 1.5 (Net Tie 1.5mm width)
footprint NET_TIE 2 (Net Tie 2mm width)
footprint NET_TIE 2.5 (Net Tie 2.5mm width)
pins: 1, 2
text: NET; TIE

## NTE0505MC
designator DA?
pins: 1 -Vin, 3 +Vin, 7 -Vout, 8 +Vout

## OH34
designator D?
MntType: SMD; BOMDescription: SMD HALL SENSOR SOT23     OH34; MPN: OH34; MSL: MSL 1; Package: SOT23; RoHS: Comply; PartType: HALL SENSOR; Pins: 3
footprint SOT-23
footprint TO92-L
pins: 1 Vcc, 2 Out, 3 GND

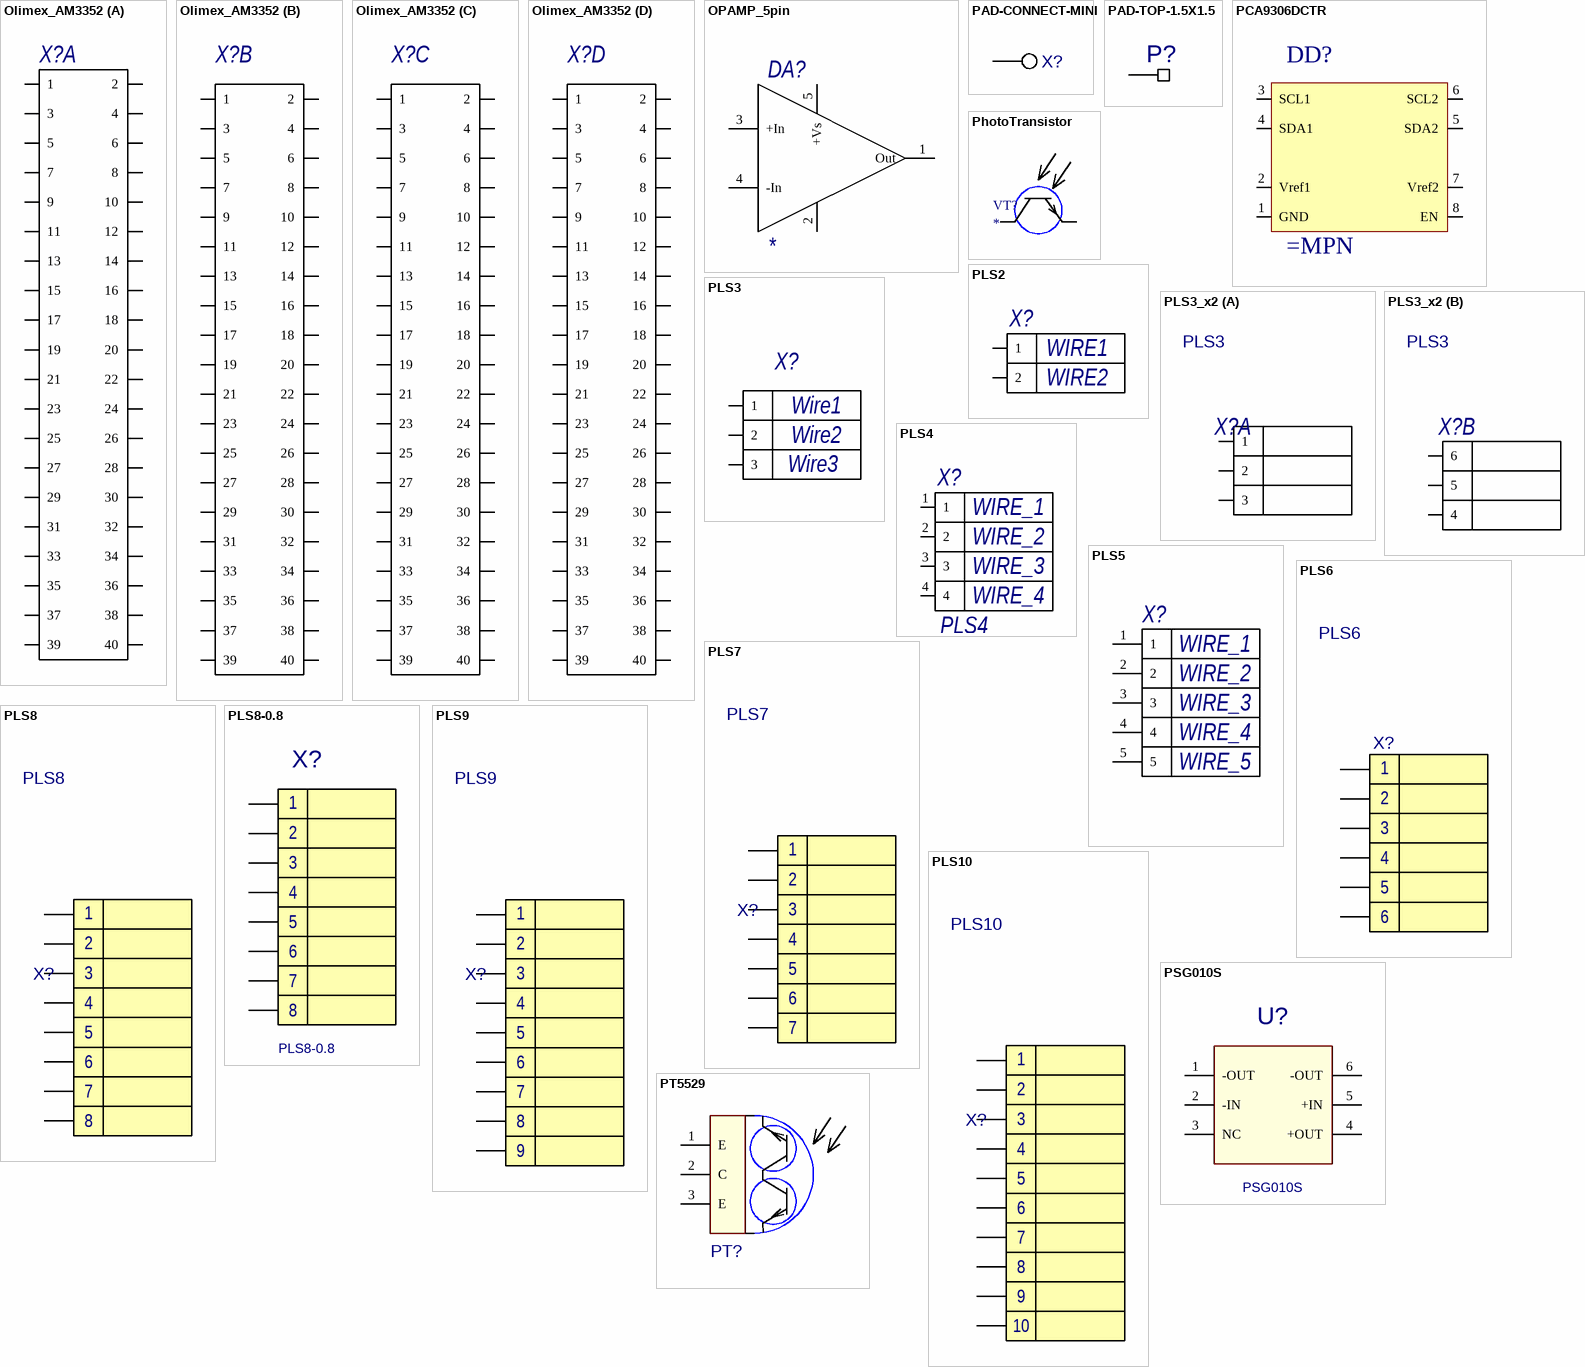
[diagram p20: symbols Olimex_AM3352 to PT5529]

## Olimex_AM3352
designator X?  (value not drawn)
part A pins: 1, 2, 3, 4, 5, 6, 7, 8, 9, 10, 11, 12, 13, 14, 15, 16, 17, 18, 19, 20, 21, 22, 23, 24, 25, 26, 27, 28, 29, 30, 31, 32, 33, 34, 35, 36, 37, 38, 39, 40
part B pins: 41 1, 42 2, 43 3, 44 4, 45 5, 46 6, 47 7, 48 8, 49 9, 50 10, 51 11, 52 12, 53 13, 54 14, 55 15, 56 16, 57 17, 58 18, 59 19, 60 20, 61 21, 62 22, 63 23, 64 24, 65 25, 66 26, 67 27, 68 28, 69 29, 70 30 (io), 71 31, 72 32, 73 33, 74 34, 75 35, 76 36, 77 37, 78 38, 79 39, 80 40
part C pins: 81 1, 82 2, 83 3, 84 4, 85 5, 86 6, 87 7, 88 8, 89 9, 90 10, 91 11, 92 12, 93 13, 94 14, 95 15, 96 16, 97 17, 98 18, 99 19, 100 20, 101 21, 102 22, 103 23, 104 24, 105 25, 106 26, 107 27, 108 28, 109 29, 110 30, 111 31, 112 32, 113 33, 114 34, 115 35, 116 36, 117 37, 118 38, 119 39, 120 40
part D pins: 121 1, 122 2, 123 3, 124 4, 125 5, 126 6, 127 7, 128 8, 129 9, 130 10, 131 11, 132 12, 133 13, 134 14, 135 15, 136 16, 137 17, 138 18, 139 19, 140 20, 141 21, 142 22 (io), 143 23, 144 24, 145 25, 146 26 (io), 147 27, 148 28, 149 29, 150 30, 151 31, 152 32, 153 33, 154 34, 155 35, 156 36, 157 37, 158 38, 159 39, 160 40

## OPAMP_5pin
designator DA?
MPN: *; Datasheet: *
pins: 1 Out, 2 -Vs, 3 +In, 4 -In, 5 +Vs

## PAD-CONNECT-MINI
designator X?  (value not drawn)  (no BOM)
MntType: SMD; MSL: MSL 1; RoHS: Comply; BOMDescription: SMD
footprint PAD-CONNECT-MINI
pins: 1

## PAD-TOP-1.5X1.5
designator P?  (value not drawn)  (graphical)
MntType: SMD; MSL: MSL 1; RoHS: Comply; BOMDescription: SMD
footprint PAD-TOP-1.5X1.5
pins: 1 pad

## PCA9306DCTR
designator DD?
footprint DCT0008A (SOP, 8-Leads, Body 2.9x3.2mm, Pitch 0.65mm, IPC Medium Density)
pins: 1 GND (power), 2 Vref1 (power), 3 SCL1 (io), 4 SDA1 (io), 5 SDA2 (io), 6 SCL2 (io), 7 Vref2 (power), 8 EN (power)

## PhotoTransistor
designator VT?
BOMDescription: SMD; MntType: SMD; MSL: MSL 1; RoHS: Comply
pins: 1 C, 2 E

## PLS2
designator X?  (value not drawn)
MntType: DIP; BOMDescription: DIP CONNECTOR CONNPLS2     PLS2; MPN: PLS2; MSL: MSL 1; Package: CONNPLS2; RoHS: Comply; PartType: CONNECTOR; Pins: 2; Wire2: WIRE2; Wire1: WIRE1
pins: 1, 2

## PLS3
designator X?
Wire3: Wire3; Wire2: Wire2; Wire1: Wire1
pins: 1, 2, 3

## PLS3_x2
designator X?, comment PLS3
MntType: DIP; BOMDescription: DIP CONNECTOR CONNPLS3     PLS3; MPN: PLS3; MSL: MSL 1; Package: CONNPLS3; RoHS: Comply; PartType: CONNECTOR; Pins: 3
part A pins: 1, 2, 3
part B pins: 4, 5, 6

## PLS4
designator X?  Wire1: WIRE_1  Wire2: WIRE_2  Wire3: WIRE_3  Wire4: WIRE_4
MntType: DIP; BOMDescription: DIP CONNECTOR CONNPLS4     PLS4; MPN: PLS4; MSL: MSL 1; Package: CONNPLS4; RoHS: Comply; PartType: CONNECTOR; Pins: 4
pins: 1, 2, 3, 4

## PLS5
designator X?  Wire5: WIRE_5  Wire4: WIRE_4  Wire3: WIRE_3  Wire2: WIRE_2  Wire1: WIRE_1  (hidden comment: PLS5)
pins: 1, 2, 3, 4, 5

## PLS6
designator X?
MntType: DIP; BOMDescription: DIP CONNECTOR CONNPLS6     PLS6; MPN: PLS6; MSL: MSL 1; Package: CONNPLS6; RoHS: Comply; PartType: CONNECTOR; Pins: 6
pins: 1, 2, 3, 4, 5, 6

## PLS7
designator X?
MntType: DIP; BOMDescription: DIP CONNECTOR CONNPLS7     PLS7; MPN: PLS7; MSL: MSL 1; Package: CONNPLS7; RoHS: Comply; PartType: CONNECTOR; Pins: 7
pins: 1, 2, 3, 4, 5, 6, 7

## PLS8
designator X?
MntType: DIP; BOMDescription: DIP CONNECTOR CONNPLS8     PLS8; MPN: PLS8; MSL: MSL 1; Package: CONNPLS8; RoHS: Comply; PartType: CONNECTOR; Pins: 8
footprint PLS8
pins: 1, 2, 3, 4, 5, 6, 7, 8

## PLS8-0.8
designator X?
MntType: DIP; BOMDescription: DIP CONNECTOR CONNPLS8-0.8     PLS8-0.8; MPN: PLS8-0.8; MSL: MSL 1; Package: CONNPLS8-0.8; RoHS: Comply; PartType: CONNECTOR; Pins: 8
footprint PLS8-0.8
pins: 1, 2, 3, 4, 5, 6, 7, 8

## PLS9
designator X?
MntType: DIP; BOMDescription: DIP CONNECTOR CONNPLS9     PLS9; MPN: PLS9; MSL: MSL 1; Package: CONNPLS9; RoHS: Comply; PartType: CONNECTOR; Pins: 9
pins: 1, 2, 3, 4, 5, 6, 7, 8, 9

## PLS10
designator X?
MntType: DIP; BOMDescription: DIP CONNECTOR CONNPLS10     PLS10; MPN: PLS10; MSL: MSL 1; Package: CONNPLS10; RoHS: Comply; PartType: CONNECTOR; Pins: 10
footprint PLS10
pins: 1, 2, 3, 4, 5, 6, 7, 8, 9, 10

## PSG010S
designator U?
MntType: DIP; BOMDescription: DIP PRESSURE SENSOR PSG010S     PSG010S; MPN: PSG010S; MSL: MSL 1; Package: PSG010S; RoHS: Comply; PartType: PRESSURE SENSOR; Pins: 6
footprint PSG010S
pins: 1 -OUT, 2 -IN, 3 NC, 4 +OUT, 5 +IN, 6 -OUT

## PT5529
designator PT?  (value not drawn)
MPN: PT5529; MntType: DIP; BOMDescription: DIP PHOTOTRANSISTOR PT5529     PT5529; MSL: MSL 1; Package: PT5529; RoHS: Comply; PartType: PHOTOTRANSISTOR; Pins: 3
footprint PT5529B
pins: 1 E, 2 C, 3 E

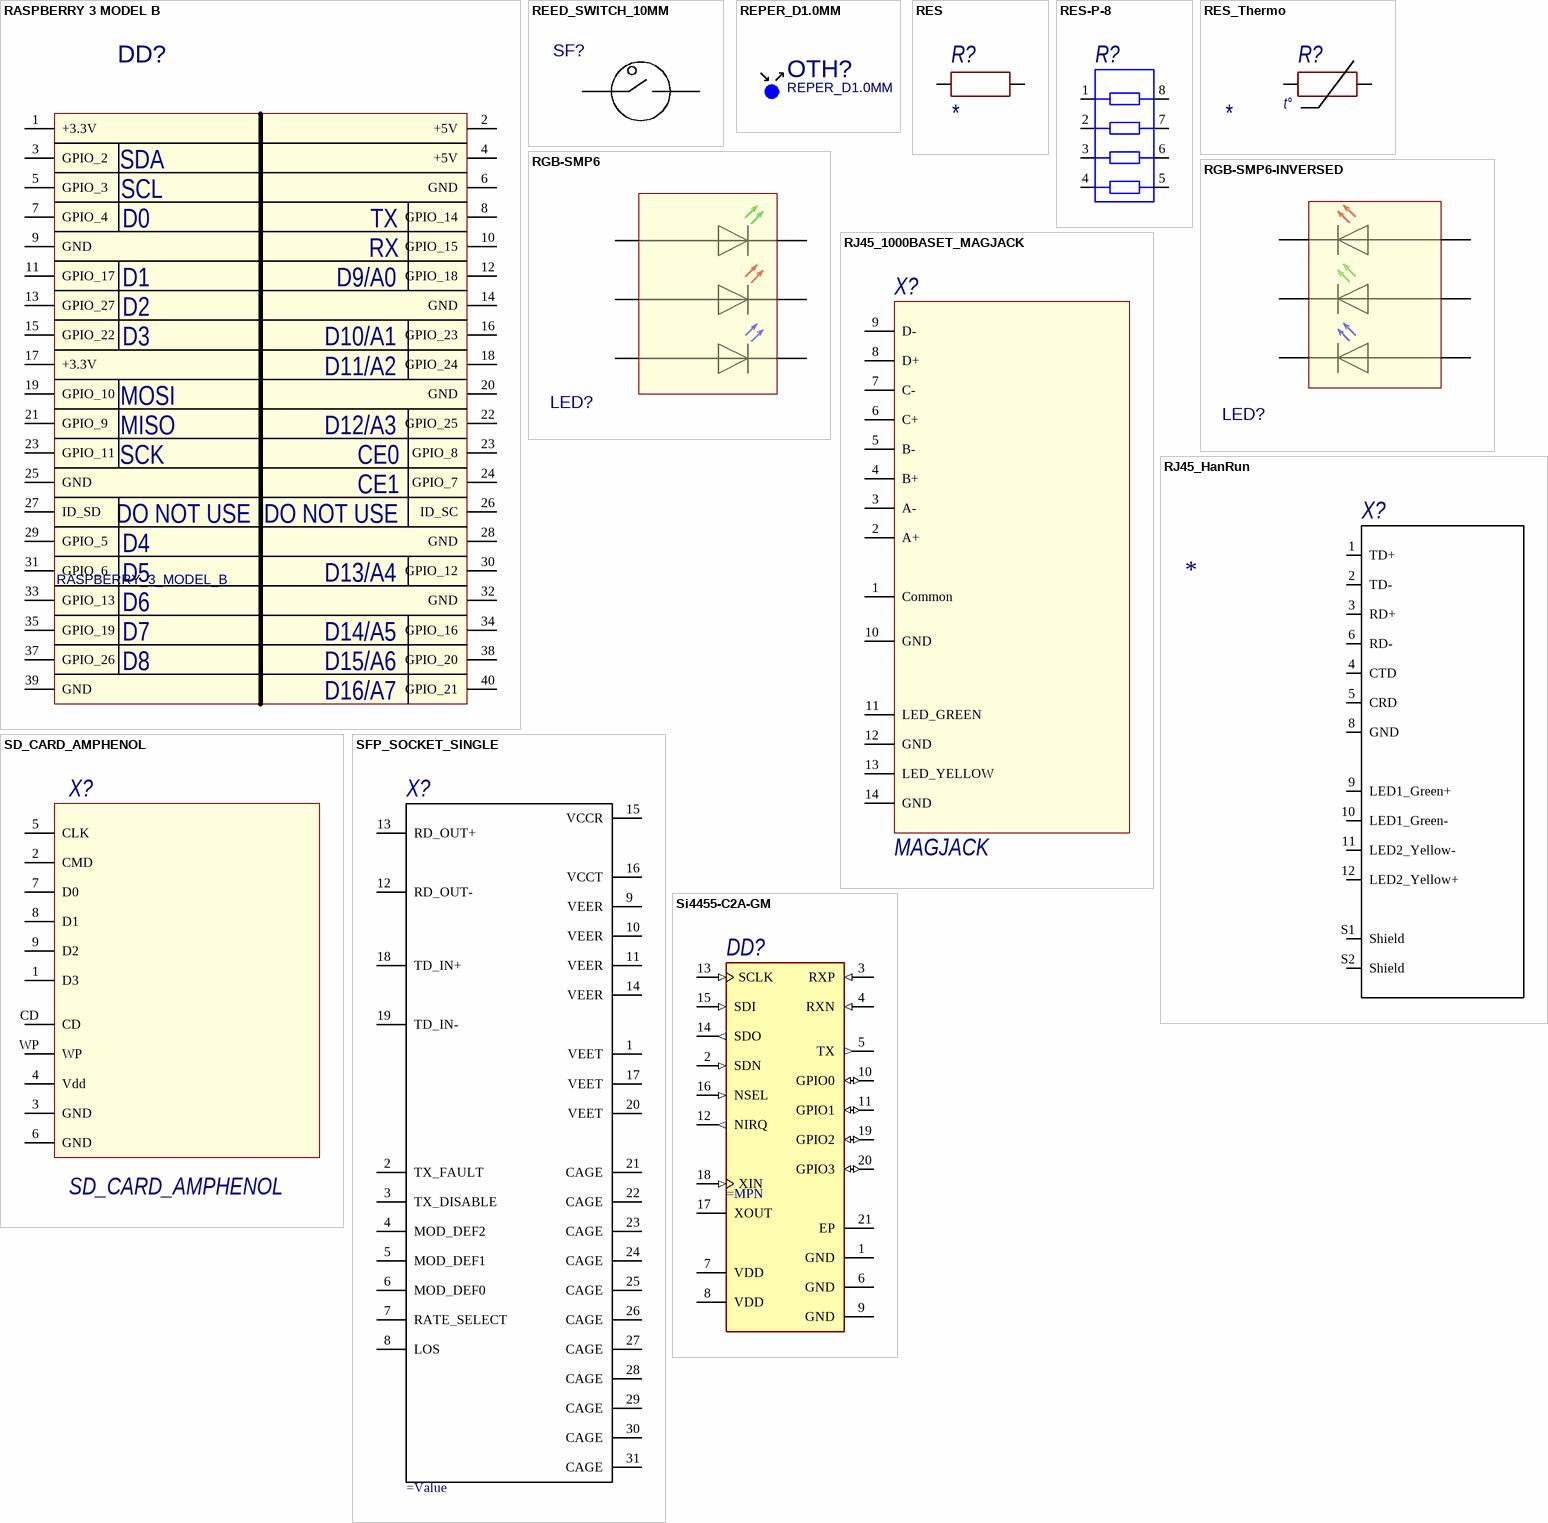
[diagram p21: symbols RASPBERRY 3 MODEL B to Si4455-С2A-GM]

## RASPBERRY 3 MODEL B
designator DD?, comment RASPBERRY_3_MODEL_B
MntType: DIP; BOMDescription: DIP RASPBERRY_3_MODEL_B      RASPBERRY_3_MODEL_B; MPN: RASPBERRY_3_MODEL_B; MSL: MSL 1; RoHS: Comply; PartType: RASPBERRY_3_MODEL_B
footprint Raspberry_B_UNDER
pins: 1 +3.3V, 2 +5V, 3 GPIO_2, 4 +5V, 5 GPIO_3, 6 GND, 7 GPIO_4, 8 GPIO_14, 9 GND, 10 GPIO_15, 11 GPIO_17, 12 GPIO_18, 13 GPIO_27, 14 GND, 15 GPIO_22, 16 GPIO_23, 17 +3.3V, 18 GPIO_24, 19 GPIO_10, 20 GND, 21 GPIO_9, 22 GPIO_25, 23 GPIO_11, 23 GPIO_8, 24 GPIO_7, 25 GND, 26 ID_SC, 27 ID_SD, 28 GND, 29 GPIO_5, 30 GPIO_12, 31 GPIO_6, 32 GND, 33 GPIO_13, 34 GPIO_16, 35 GPIO_19, 37 GPIO_26, 38 GPIO_20, 39 GND, 40 GPIO_21
text: SDA; SCL; D0; TX; RX; D1; D9/A0; D2; D3; D10/A1; D11/A2; MOSI; MISO; D12/A3; SCK; CE0; CE1; DO NOT USE; D4; D5; D13/A4; D6; D7; D14/A5; D8; D15/A6; D16/A7

## REED_SWITCH_10MM
designator SF?  (value not drawn)
MntType: SMD; MSL: MSL 1; RoHS: Comply; BOMDescription: SMD
footprint REED_SWITCH_10MM
pins: 1, 2

## REPER_D1.0MM
designator OTH?  (no BOM)
MntType: SMD; MSL: MSL 1; RoHS: Comply; BOMDescription: SMD
footprint REPER_D1.0MM

## RES
designator R?
MntType: SMD; MSL: MSL 1; RoHS: Comply; PartType: CHIP RESISTOR; Pins: 2; BOMDescription: =MntType+' '+PartType+' '+Package+' '+Value+' '+Tolerance+' '+Voltage+' '+TempCoeff+' '+MPN; Value: *
pins: 1, 2

## RES-P-8
designator R?
pins: 1, 2, 3, 4, 5, 6, 7, 8

## RES_Thermo
designator R?
Value: *
pins: 1, 2
text: t°

## RGB-SMP6
designator LED?
MPN: RGB-SMP6; MntType: SMD; BOMDescription: SMD CHIP RGB LED LEDC5050     RGB-SMP6; MSL: MSL 5; Package: LEDC5050; RoHS: Comply; PartType: CHIP RGB LED; Pins: 6
footprint RGB-SMP6
pins: 1, 2, 3, 4, 5, 6

## RGB-SMP6-INVERSED
designator LED?
MPN: HBC1008-OC S5050RGB21-MTH-ZC; MntType: SMD; BOMDescription: SMD       HBC1008-OC S5050RGB21-MTH-ZC; MSL: MSL 1; RoHS: Comply
footprint RGB-SMP6
pins: 1, 2, 3, 4, 5, 6

## RJ45_1000BASET_MAGJACK
designator X?, comment MAGJACK
pins: 1 Common, 2 A+, 3 A-, 4 B+, 5 B-, 6 C+, 7 C-, 8 D+, 9 D-, 10 GND, 11 LED_GREEN, 12 GND, 13 LED_YELLOW, 14 GND

## RJ45_HanRun
designator X?
pins: 1 TD+, 2 TD-, 3 RD+, 4 CTD, 5 CRD, 6 RD-, 8 GND, 9 LED1_Green+, 10 LED1_Green-, 11 LED2_Yellow-, 12 LED2_Yellow+, S1 Shield, S2 Shield

## SD_CARD_AMPHENOL
designator X?
pins: 1 D3, 2 CMD, 3 GND, 4 Vdd, 5 CLK, 6 GND, 7 D0, 8 D1, 9 D2, CD, WP

## SFP_SOCKET_SINGLE
designator X?
pins: 1 VEET, 2 TX_FAULT, 3 TX_DISABLE, 4 MOD_DEF2, 5 MOD_DEF1, 6 MOD_DEF0, 7 RATE_SELECT, 8 LOS, 9 VEER, 10 VEER, 11 VEER, 12 RD_OUT-, 13 RD_OUT+, 14 VEER, 15 VCCR, 16 VCCT, 17 VEET, 18 TD_IN+, 19 TD_IN-, 20 VEET, 21 CAGE, 22 CAGE, 23 CAGE, 24 CAGE, 25 CAGE, 26 CAGE, 27 CAGE, 28 CAGE, 29 CAGE, 30 CAGE, 31 CAGE

## Si4455-С2A-GM
designator DD?
ComponentLink1URL: http://www.silabs.com/; ComponentLink1Description: Manufacturer URL
pins: 1 GND (power) "Ground", 2 SDN (in) "Shutdown (0 - VDD V) - SDN=1, part will be in shutdown mode and contents of all registers are lost. SDN=0, all other modes", 3 RXP (in) "Differential RF receiver input pin", 4 RXN (in) "Differential RF receiver input pin", 5 TX (out) "Transmit RF output pin", 6 GND (power) "Ground", 7 VDD (power) "Supply voltage", 8 VDD (power) "Supply voltage", 9 GND (power) "Ground", 10 GPIO0 (io) "General Purpose Digital I/O", 11 GPIO1 (io) "General Purpose Digital I/O", 12 NIRQ (out) "Interrupt Status Output - nIRQ = 0, interrupt event has occurred. Read interrupt status for event details", 13 SCLK (in) "Serial Clock Input (0 - VDD V): Provides serial data clock for 4-line serial data bus", 14 SDO (out) "Serial Data Output (0 - VDD V): Provides serial data readback function of internal control registers", 15 SDI (in) "Serial Data Input (0 - VDD V): Serial data stream input for 4-line serial data bus", 16 NSEL (in) "Serial Interface Select Input (0 - VDD V): Provides select/enable function for 4-line serial data bus", 17 XOUT "Crystal Oscillator Output", 18 XIN (in) "Crystal Oscillator Input: No dc bias required, but if used, should be set to 0.7 V", 19 GPIO2 (io) "General Purpose Digital I/O", 20 GPIO3 (io) "General Purpose Digital I/O", 21 EP

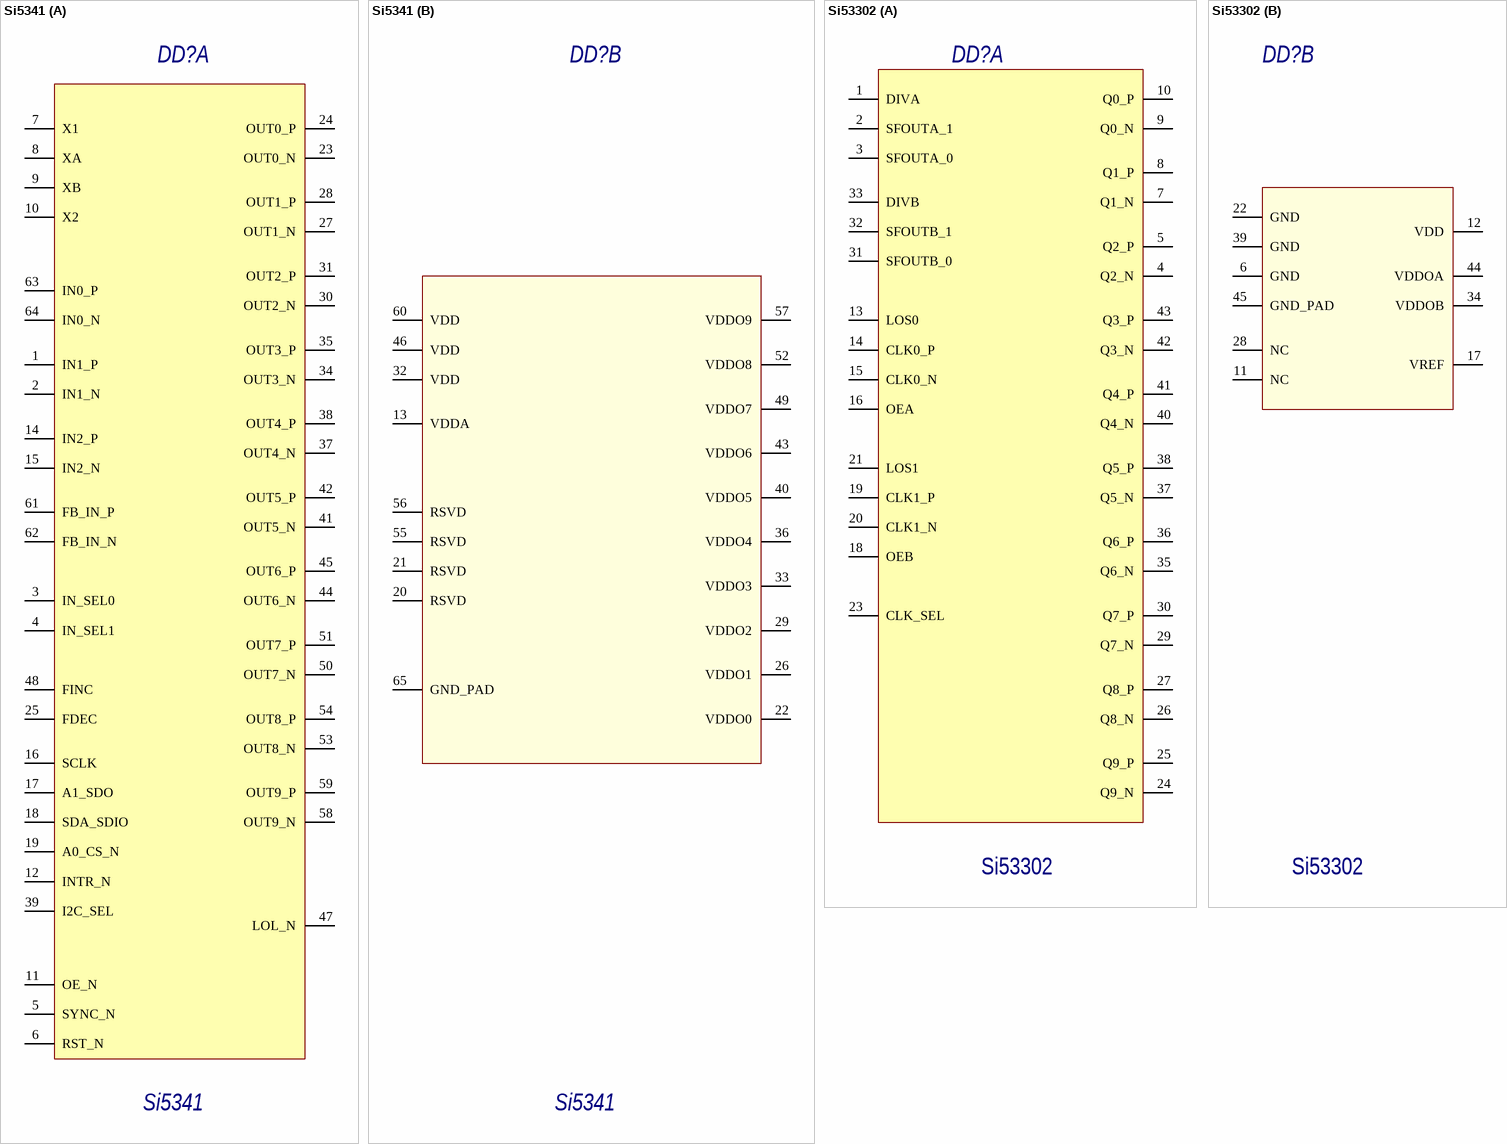
[diagram p22: symbols Si5341 to Si53302]

## Si5341
designator DD?
part A pins: 1 IN1_P, 2 IN1_N, 3 IN_SEL0, 4 IN_SEL1, 5 SYNC_N, 6 RST_N, 7 X1, 8 XA, 9 XB, 10 X2, 11 OE_N, 12 INTR_N, 14 IN2_P, 15 IN2_N, 16 SCLK, 17 A1_SDO, 18 SDA_SDIO, 19 A0_CS_N, 23 OUT0_N, 24 OUT0_P, 25 FDEC, 27 OUT1_N, 28 OUT1_P, 30 OUT2_N, 31 OUT2_P, 34 OUT3_N, 35 OUT3_P, 37 OUT4_N, 38 OUT4_P, 39 I2C_SEL, 41 OUT5_N, 42 OUT5_P, 44 OUT6_N, 45 OUT6_P, 47 LOL_N, 48 FINC, 50 OUT7_N, 51 OUT7_P, 53 OUT8_N, 54 OUT8_P, 58 OUT9_N, 59 OUT9_P, 61 FB_IN_P, 62 FB_IN_N, 63 IN0_P, 64 IN0_N
part B pins: 13 VDDA, 20 RSVD, 21 RSVD, 22 VDDO0, 26 VDDO1, 29 VDDO2, 32 VDD, 33 VDDO3, 36 VDDO4, 40 VDDO5, 43 VDDO6, 46 VDD, 49 VDDO7, 52 VDDO8, 55 RSVD, 56 RSVD, 57 VDDO9, 60 VDD, 65 GND_PAD

## Si53302
designator DD?
part A pins: 1 DIVA, 2 SFOUTA_1, 3 SFOUTA_0, 4 Q2_N, 5 Q2_P, 7 Q1_N, 8 Q1_P, 9 Q0_N, 10 Q0_P, 13 LOS0, 14 CLK0_P, 15 CLK0_N, 16 OEA, 18 OEB, 19 CLK1_P, 20 CLK1_N, 21 LOS1, 23 CLK_SEL, 24 Q9_N, 25 Q9_P, 26 Q8_N, 27 Q8_P, 29 Q7_N, 30 Q7_P, 31 SFOUTB_0, 32 SFOUTB_1, 33 DIVB, 35 Q6_N, 36 Q6_P, 37 Q5_N, 38 Q5_P, 40 Q4_N, 41 Q4_P, 42 Q3_N, 43 Q3_P
part B pins: 6 GND, 11 NC, 12 VDD, 17 VREF, 22 GND, 28 NC, 34 VDDOB, 39 GND, 44 VDDOA, 45 GND_PAD

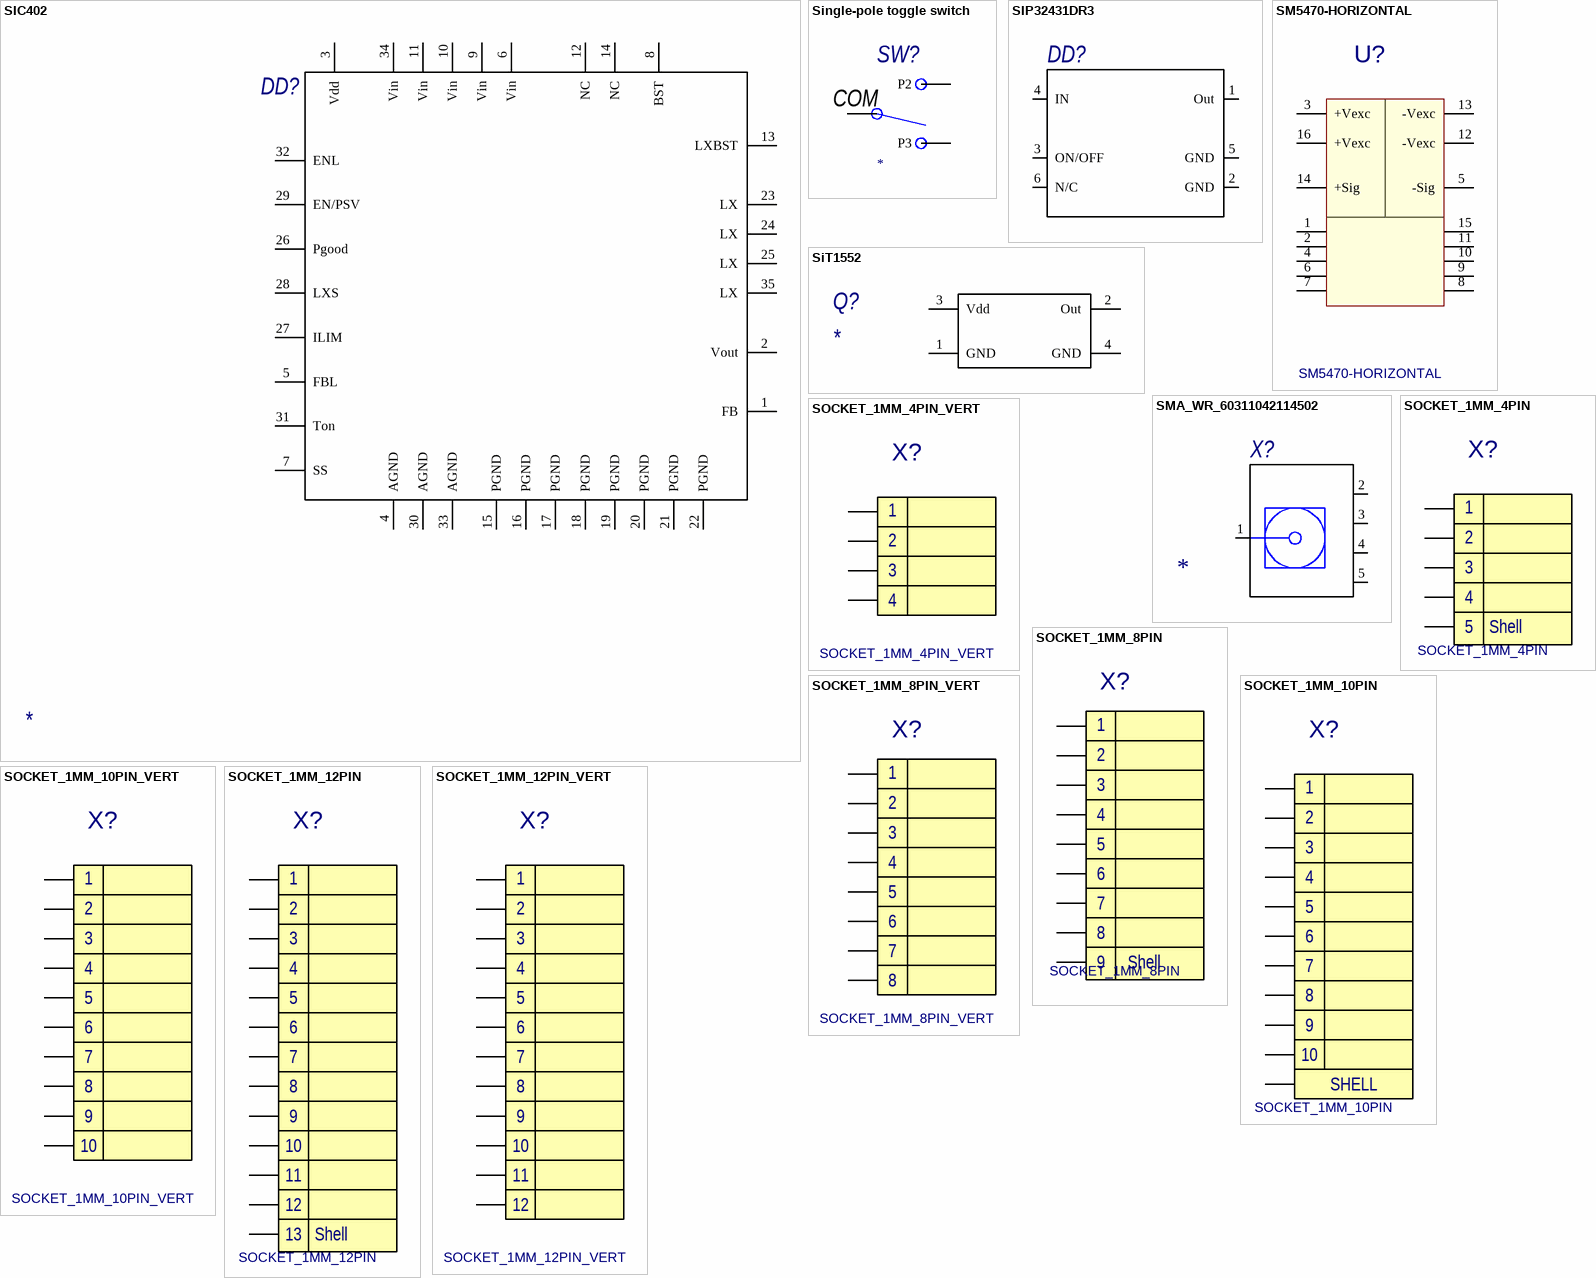
[diagram p23: symbols SIC402 to SOCKET_1MM_12PIN_VERT]

## SIC402
designator DD?
pins: 1 FB, 2 Vout, 3 Vdd, 4 AGND, 5 FBL, 6 Vin, 7 SS, 8 BST, 9 Vin, 10 Vin, 11 Vin, 12 NC, 13 LXBST, 14 NC, 15 PGND, 16 PGND, 17 PGND, 18 PGND, 19 PGND, 20 PGND, 21 PGND, 22 PGND, 23 LX, 24 LX, 25 LX, 26 Pgood, 27 ILIM, 28 LXS, 29 EN/PSV, 30 AGND, 31 Ton, 32 ENL, 33 AGND, 34 Vin, 35 LX

## Single-pole toggle switch
designator SW?
Toggle Switch SPDT Through Hole, Right Angle; MPN: *
pins: 1 P2, 2 COM, 3 P3

## SIP32431DR3
designator DD?  (value not drawn)
pins: 1 Out, 2 GND, 3 ON/OFF, 4 IN, 5 GND, 6 N/C

## SiT1552
designator Q?
MPN: *
pins: 1 GND, 2 Out, 3 Vdd, 4 GND

## SM5470-HORIZONTAL
designator U?
MPN: SM5470-X-D-B; MntType: DIP; BOMDescription: DIP PRESSURE SENSOR SM5470-X-D-B     SM5470-X-D-B; MSL: MSL 1; Package: SM5470-X-D-B; RoHS: Comply; PartType: PRESSURE SENSOR; Pins: 6
footprint SM5470-X-D-B
pins: 1, 2, 3 +Vexc, 4, 5 -Sig, 6, 7, 8, 9, 10, 11, 12 -Vexc, 13 -Vexc, 14 +Sig, 15, 16 +Vexc

## SMA_WR_60311042114502
designator X?
pins: 1 Signal "Signal Pin", 2 GND (power), 3 GND (power), 4 GND (power), 5 GND (power)

## SOCKET_1MM_4PIN
designator X?
MntType: SMD; BOMDescription: SMD FPC CONNECTOR FPC 1X4; MSL: MSL 1; Package: FPC 1X4; RoHS: Comply; PartType: FPC CONNECTOR; Pins: 4
footprint SOCKET_1MM_4PIN
pins: 1, 2, 3, 4, Shell
text: 5

## SOCKET_1MM_4PIN_VERT
designator X?
MntType: SMD; BOMDescription: SMD FPC CONNECTOR FPC 1X4; MSL: MSL 1; Package: FPC 1X4; RoHS: Comply; PartType: FPC CONNECTOR; Pins: 4
footprint SOCKET_1MM_4PIN_VERT
pins: 1, 2, 3, 4

## SOCKET_1MM_8PIN
designator X?
MntType: SMD; BOMDescription: SMD FPC CONNECTOR FPC 1X8; MSL: MSL 1; Package: FPC 1X8; RoHS: Comply; PartType: FPC CONNECTOR; Pins: 8
footprint SOCKET_1MM_8PIN
pins: 1, 2, 3, 4, 5, 6, 7, 8, Shell
text: 9

## SOCKET_1MM_8PIN_VERT
designator X?
MntType: SMD; BOMDescription: SMD FPC CONNECTOR FPC 1X8; MSL: MSL 1; Package: FPC 1X8; RoHS: Comply; PartType: FPC CONNECTOR; Pins: 8
footprint SOCKET_1MM_8PIN_VERT
pins: 1, 2, 3, 4, 5, 6, 7, 8

## SOCKET_1MM_10PIN
designator X?
MntType: SMD; BOMDescription: SMD FPC CONNECTOR FPC 1X10; MSL: MSL 1; Package: FPC 1X10; RoHS: Comply; PartType: FPC CONNECTOR; Pins: 10
footprint SOCKET_1MM_10PIN
pins: 1, 2, 3, 4, 5, 6, 7, 8, 9, 10, SHELL 10

## SOCKET_1MM_10PIN_VERT
designator X?
MntType: SMD; BOMDescription: SMD FPC CONNECTOR FPC 1X10; MSL: MSL 1; Package: FPC 1X10; RoHS: Comply; PartType: FPC CONNECTOR; Pins: 10
footprint SOCKET_1MM_10PIN_VERT
pins: 1, 2, 3, 4, 5, 6, 7, 8, 9, 10

## SOCKET_1MM_12PIN
designator X?
MntType: SMD; BOMDescription: SMD FPC CONNECTOR FPC 1X12; MSL: MSL 1; Package: FPC 1X12; RoHS: Comply; PartType: FPC CONNECTOR; Pins: 12
footprint SOCKET_1MM_12PIN
pins: 1, 2, 3, 4, 5, 6, 7, 8, 9, 10, 11, 12, Shell
text: 13

## SOCKET_1MM_12PIN_VERT
designator X?
MntType: SMD; BOMDescription: SMD FPC CONNECTOR FPC 1X12; MSL: MSL 1; Package: FPC 1X12; RoHS: Comply; PartType: FPC CONNECTOR; Pins: 12
footprint SOCKET_1MM_12PIN_VERT
pins: 1, 2, 3, 4, 5, 6, 7, 8, 9, 10, 11, 12

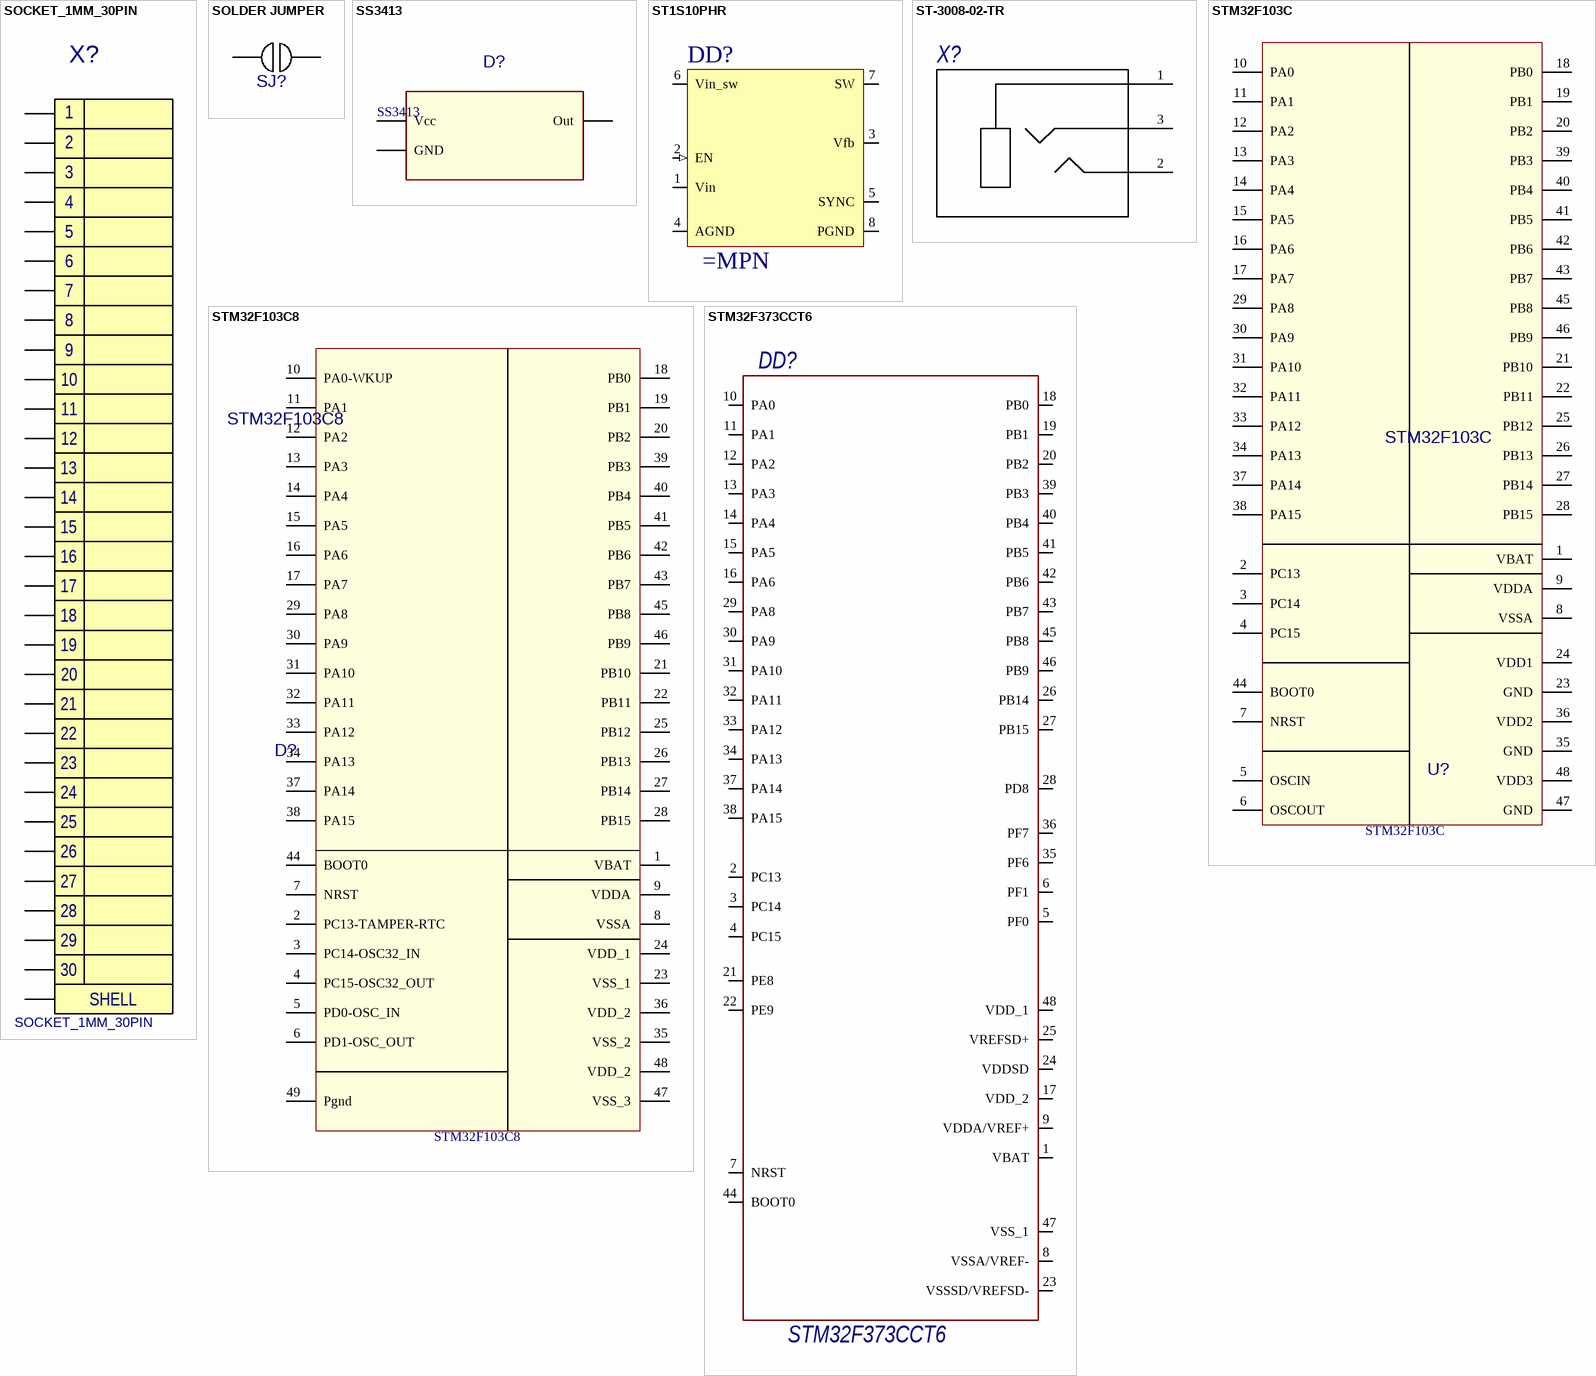
[diagram p24: symbols SOCKET_1MM_30PIN to STM32F373CCT6]

## SOCKET_1MM_30PIN
designator X?
MntType: SMD; BOMDescription: SMD FPC CONNECTOR FPC 1X30; MSL: MSL 1; Package: FPC 1X30; RoHS: Comply; PartType: FPC CONNECTOR; Pins: 30
footprint SOCKET_1MM_30PIN
pins: 1, 2, 3, 4, 5, 6, 7, 8, 9, 10, 11, 12, 13, 14, 15, 16, 17, 18, 19, 20, 21, 22, 23, 24, 25, 26, 27, 28, 29, 30, SHELL 31

## SOLDER JUMPER
designator SJ?, comment SolderJumper  (value not drawn)
Value: 0R; MntType: SMD; MSL: MSL 1; RoHS: Comply; PartType: CHIP RESISTOR; Pins: 2; BOMDescription: =MntType+' '+PartType+' '+Package+' '+Value+' '+Tolerance+' '+Voltage+' '+TempCoeff+' '+MPN
footprint SJ603
footprint RESC0603N
pins: 1, 2

## SS3413
designator D?
MntType: SMD; BOMDescription: SMD HALL SENSOR SOT23     SS3413; MPN: SS3413; MSL: MSL 1; Package: SOT23; RoHS: Comply; PartType: HALL SENSOR; Pins: 3
footprint SOT-23
footprint TO92-L
pins: 1 Vcc, 2 GND, 3 Out

## ST1S10PHR
designator DD?
pins: 1 Vin (power), 2 EN (in), 3 Vfb (power), 4 AGND (power), 5 SYNC (power), 6 Vin_sw (power), 7 SW (power), 8 PGND (power)

## ST-3008-02-TR
designator X?
pins: 1, 2, 3

## STM32F103C
designator U?
Manufacturer: STM; MntType: SMD; BOMDescription: SMD MCU LQFP48     STM32F103C; MSL: MSL 1; Package: LQFP48; RoHS: Comply; PartType: MCU; Pins: 48; MPN: STM32F103C
footprint LQFP48
pins: 1 VBAT, 2 PC13, 3 PC14, 4 PC15, 5 OSCIN, 6 OSCOUT, 7 NRST, 8 VSSA, 9 VDDA, 10 PA0, 11 PA1, 12 PA2, 13 PA3, 14 PA4, 15 PA5, 16 PA6, 17 PA7, 18 PB0, 19 PB1, 20 PB2, 21 PB10, 22 PB11, 23 GND, 24 VDD1, 25 PB12, 26 PB13, 27 PB14, 28 PB15, 29 PA8, 30 PA9, 31 PA10, 32 PA11, 33 PA12, 34 PA13, 35 GND, 36 VDD2, 37 PA14, 38 PA15, 39 PB3, 40 PB4, 41 PB5, 42 PB6, 43 PB7, 44 BOOT0, 45 PB8, 46 PB9, 47 GND, 48 VDD3

## STM32F103C8
designator D?
Manufacturer: STM; MntType: SMD; BOMDescription: SMD MCU VFQFPN48     STM32F103C8; MSL: MSL 1; Package: VFQFPN48; RoHS: Comply; PartType: MCU; Pins: 48; MPN: STM32F103C8
footprint VFQFPN48 7X7
pins: 1 VBAT, 2 PC13-TAMPER-RTC, 3 PC14-OSC32_IN, 4 PC15-OSC32_OUT, 5 PD0-OSC_IN, 6 PD1-OSC_OUT, 7 NRST, 8 VSSA, 9 VDDA, 10 PA0-WKUP, 11 PA1, 12 PA2, 13 PA3, 14 PA4, 15 PA5, 16 PA6, 17 PA7, 18 PB0, 19 PB1, 20 PB2, 21 PB10, 22 PB11, 23 VSS_1, 24 VDD_1, 25 PB12, 26 PB13, 27 PB14, 28 PB15, 29 PA8, 30 PA9, 31 PA10, 32 PA11, 33 PA12, 34 PA13, 35 VSS_2, 36 VDD_2, 37 PA14, 38 PA15, 39 PB3, 40 PB4, 41 PB5, 42 PB6, 43 PB7, 44 BOOT0, 45 PB8, 46 PB9, 47 VSS_3, 48 VDD_2, 49 Pgnd

## STM32F373CCT6
designator DD?
pins: 1 VBAT, 2 PC13, 3 PC14, 4 PC15, 5 PF0, 6 PF1, 7 NRST, 8 VSSA/VREF-, 9 VDDA/VREF+, 10 PA0, 11 PA1, 12 PA2, 13 PA3, 14 PA4, 15 PA5, 16 PA6, 17 VDD_2, 18 PB0, 19 PB1, 20 PB2, 21 PE8, 22 PE9, 23 VSSSD/VREFSD-, 24 VDDSD, 25 VREFSD+, 26 PB14, 27 PB15, 28 PD8, 29 PA8, 30 PA9, 31 PA10, 32 PA11, 33 PA12, 34 PA13, 35 PF6, 36 PF7, 37 PA14, 38 PA15, 39 PB3, 40 PB4, 41 PB5, 42 PB6, 43 PB7, 44 BOOT0, 45 PB8, 46 PB9, 47 VSS_1, 48 VDD_1

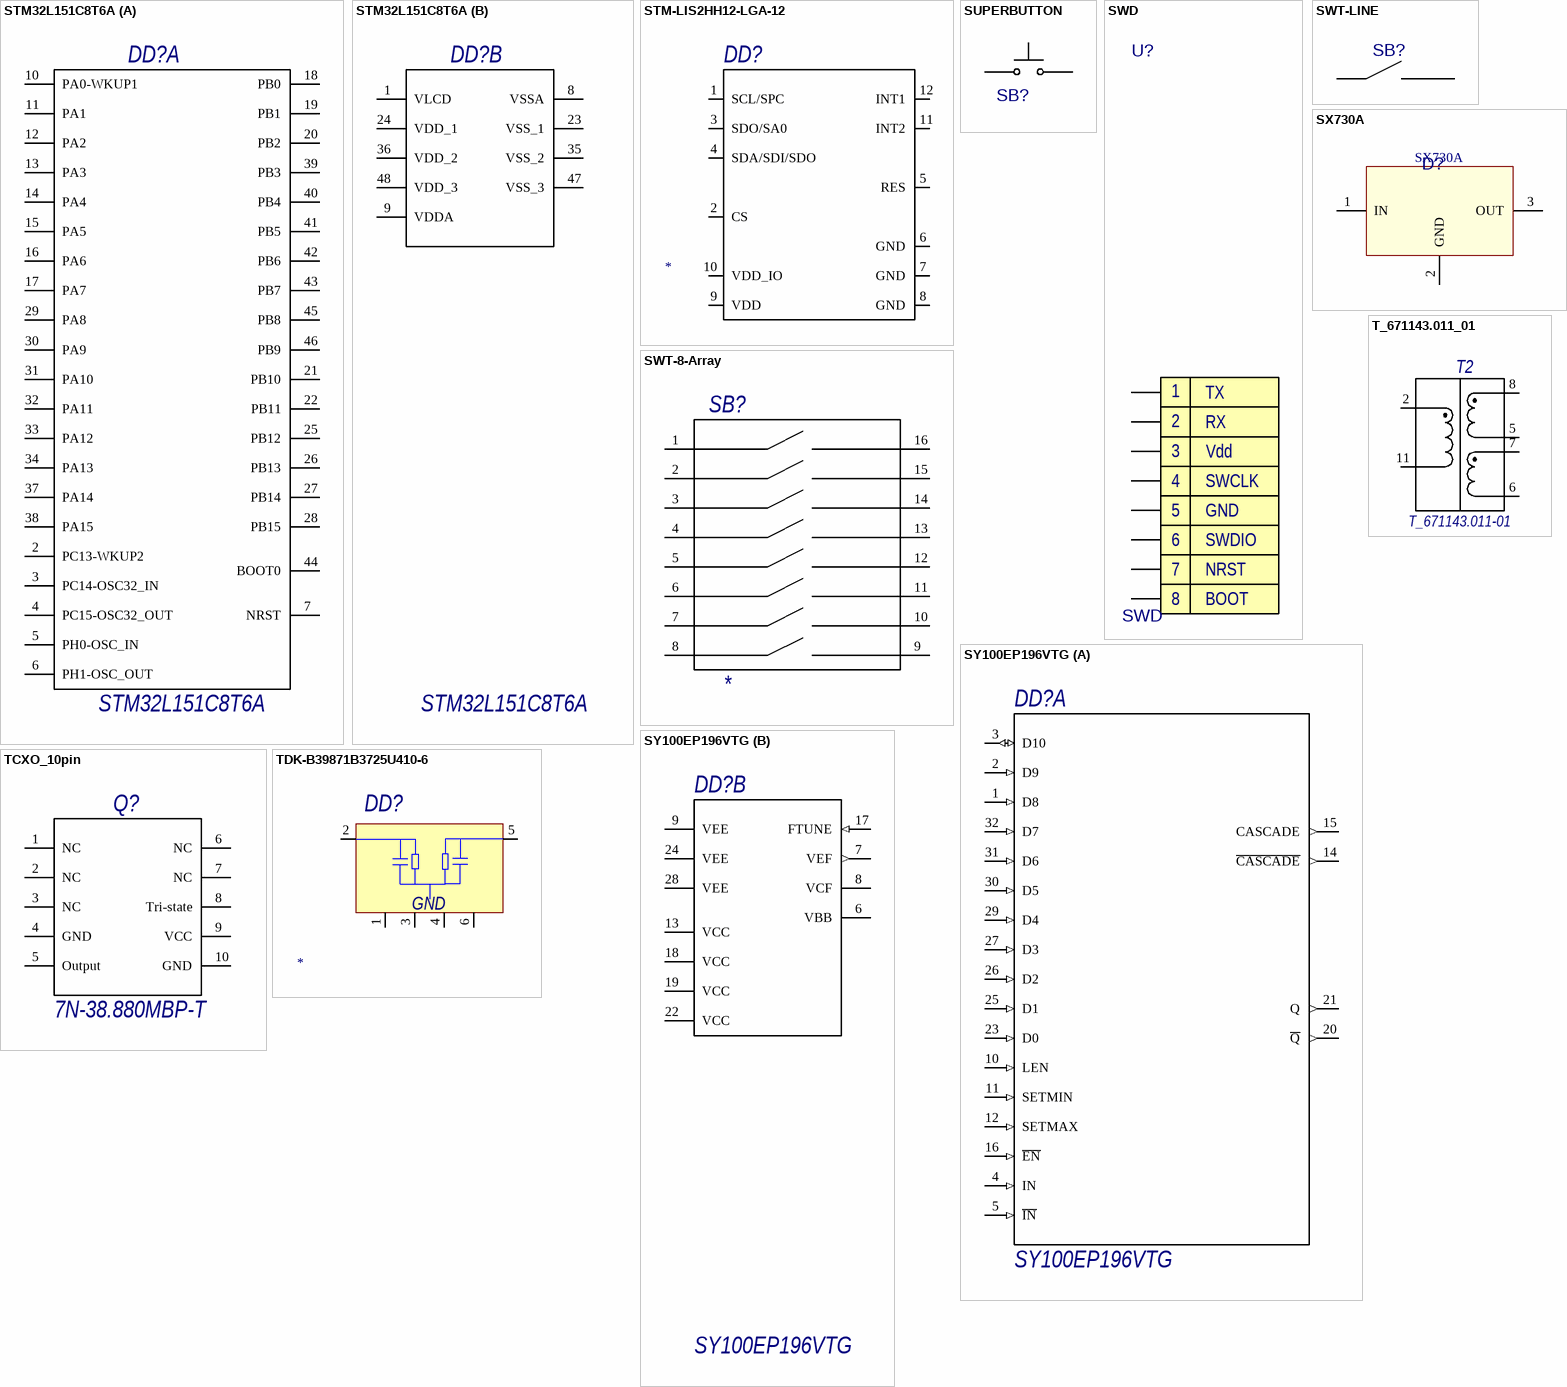
[diagram p25: symbols STM32L151C8T6A to TDK-B39871B3725U410-6]

## STM32L151C8T6A
designator DD?
ARM Cortex-M3 32-bit MCU, 64 KB Flash, 32 KB Internal RAM, 37 I/Os, 48-Pin LQFP, -40 to 85 degC, Tray. Interfaces: I2C, SPI, USART, USB. SMD. LQFP48; Manufacturer: STMicroelectronics; FLASH Size (Prog) (kB): 64; Internal RAM Size (kB): 32; Supply Voltage(Vcc) min (V): 1.8; Data E2PROM nom (B): 4096; I/Os (High Current): 37; D/A Converter: 2; Packing: Tray; ComponentLink2Description: Datasheet; Package Description: 48-Pin Low Profile Quad Flat Package, Body 7 x 7 mm, Pitch 0.5 mm; Mounting Technology: Surface Mount; Package Reference: LQFP48; ComponentLink1Description: Manufacturer URL; Operating Frequency(F) (Processor speed) (MHz): 32; ComponentLink2URL: http://www.st.com/st-web-ui/static/active/en/resource/technical/document/datasheet/DM00078689.pdf; ComponentLink1URL: http://www.st.com/; PartNumber: STM32L151C8T6A; Core: ARM Cortex-M3; DatasheetVersion: Rev. 4
footprint STM-LQFP48_L (QFP, 48-Leads, Body 7x7mm, Pitch 0.5mm, IPC High Density)
footprint STM-LQFP48_M (QFP, 48-Leads, Body 7x7mm, Pitch 0.5mm, IPC Low Density)
footprint STM-LQFP48_N (QFP, 48-Leads, Body 7x7mm, Pitch 0.5mm, IPC Medium Density)
part A pins: 2 PC13-WKUP2 "PC13/RTC_TAMP1/RTC_TS/RTC_OUT/WKUP2", 3 PC14-OSC32_IN "PC14/OSC32_IN", 4 PC15-OSC32_OUT "PC15/OSC32_OUT", 5 PH0-OSC_IN "PH0/OSC_IN", 6 PH1-OSC_OUT "PH1/OSC_OUT", 7 NRST, 10 PA0-WKUP1 "PA0/USART2_CTS/TIM2_CH1_ETR/WKUP1/ADC_IN0/COMP1_INP/RTC_TAMP2", 11 PA1 "PA1/USART2_RTS/TIM2_CH2/LCD_SEG0/ADC_IN1/COMP1_INP", 12 PA2 "PA2/USART2_TX/TIM2_CH3/TIM9_CH1/LCD_SEG1/ADC_IN2/COMP1_INP", 13 PA3 "PA3/USART2_RX/TIM2_CH4/TIM9_CH2/LCD_SEG2/ADC_IN3/COMP1_INP", 14 PA4 "PA4/SPI1_NSS/USART2_CK/ADC_IN4/DAC_OUT1/COMP1_INP", 15 PA5 "PA5/SPI1_SCK/TIM2_CH1_ETR/ADC_IN5/DAC_OUT2/COMP1_INP", 16 PA6 "PA6/SPI1_MISO/TIM3_CH1/LCD_SEG3/TIM10_CH1/ADC_IN6/COMP1_INP", 17 PA7 "PA7/SPI1_MOSI/TIM3_CH2/LCD_SEG4/TIM11_CH1/ADC_IN7/COMP1_INP", 18 PB0 "PB0/TIM3_CH3/LCD_SEG5/ADC_IN8/COMP1_INP/VREF_OUT/VLCDRAIL3", 19 PB1 "PB1/TIM3_CH4/LCD_SEG6/ADC_IN9/COMP1_INP/VREF_OUT", 20 PB2 "PB2/BOOT1/VLCDRAIL1", 21 PB10 "PB10/I2C2_SCL/USART3_TX/TIM2_CH3/LCD_SEG10", 22 PB11 "PB11/I2C2_SDA/USART3_RX/TIM2_CH4/LCD_SEG11", 25 PB12 "PB12/SPI2_NSS/I2C2_SMBA/USART3_CK/LCD_SEG12/TIM10_CH1/ADC_IN18/COMP1_INP/VLCDRAIL2", 26 PB13 "PB13/SPI2_SCK/USART3_CTS/LCD_SEG13/TIM9_CH1/ADC_IN19/COMP1_INP", 27 PB14 "PB14/SPI2_MISO/USART3_RTS/LCD_SEG14/TIM9_CH2/ADC_IN20/COMP1_INP", 28 PB15 "PB15/SPI2_MOSI/LCD_SEG15/TIM11_CH1/ADC_IN21/COMP1_INP/RTC_REFIN", 29 PA8 "PA8/USART1_CK/MCO/LCD_COM0", 30 PA9 "PA9/USART1_TX/LCD_COM1", 31 PA10 "PA10/USART1_RX/LCD_COM2", 32 PA11 "PA11/USART1_CTS/SPI1_MISO/USB_DM", 33 PA12 "PA12/USART1_RTS/SPI1_MOSI/USB_DP", 34 PA13 "PA13/JTMS-SWDIO", 37 PA14 "PA14/JTCK-SWCLK", 38 PA15 "PA15/JTDI/TIM2_CH1_ETR/SPI1_NSS/LCD_SEG17", 39 PB3 "PB3/TIM2_CH2/SPI1_SCK/LCD_SEG7/JTDO/COMP2_INM", 40 PB4 "PB4/TIM3_CH1/SPI1_MISO/LCD_SEG8/NJTRST/COMP2_INP", 41 PB5 "PB5/I2C1_SMBA/TIM3_CH2/SPI1_MOSI/LCD_SEG9/COMP2_INP", 42 PB6 "PB6/I2C1_SCL/TIM4_CH1/USART1_TX", 43 PB7 "PB7/I2C1_SDA/TIM4_CH2/USART1_RX/PVD_IN", 44 BOOT0, 45 PB8 "PB8/TIM4_CH3/I2C1_SCL/LCD_SEG16/TIM10_CH1", 46 PB9 "PB9/TIM4_CH4/I2C1_SDA/LCD_COM3/TIM11_CH1"
part B pins: 1 VLCD (power), 8 VSSA (power), 9 VDDA (power), 23 VSS_1 (power), 24 VDD_1 (power), 35 VSS_2 (power), 36 VDD_2 (power), 47 VSS_3 (power), 48 VDD_3 (power)

## STM-LIS2HH12-LGA-12
designator DD?
pins: 1 SCL/SPC, 2 CS "SPI enable I2C/SPI mode selection (1: SPI idle mode / I2C communication enabled; 0: SPI communication mode / I2C disabled)", 3 SDO/SA0, 4 SDA/SDI/SDO, 5 RES "Connect to GND", 6 GND (power) "0 V supply", 7 GND (power) "0 V supply", 8 GND (power) "0 V supply", 9 VDD (power) "Power supply", 10 VDD_IO (power) "Power supply for I/O pins", 11 INT2 "Interrupt pin 2", 12 INT1 "Interrupt pin 1"

## SUPERBUTTON
designator SB?  (value not drawn)
MntType: SMD; MSL: MSL 1; RoHS: Comply; BOMDescription: SMD
footprint SUPERBUTTON
pins: 1, 2

## SWD
designator U?
MPN: PLS8; MntType: SMD; BOMDescription: SMD CONNECTOR      PLS8; MSL: MSL 1; RoHS: Comply; PartType: CONNECTOR; Pins: 8
footprint PLS8
pins: 1, 2, 3, 4, 5, 6, 7, 8
text: TX; RX; Vdd; SWCLK; GND; SWDIO; NRST; BOOT

## SWT-8-Array
designator SB?
MPN: *; Datasheet: *
footprint SWT-4
pins: 1, 2, 3 hidden, 3, 4 hidden, 4, 5, 6, 7, 8, 9, 10, 11, 12, 13, 14, 15, 16

## SWT-LINE
designator SB?  (value not drawn)
MPN: SWT-4; MntType: SMD; BOMDescription: SMD BUTTON SWT-4     SWT-4; MSL: MSL 1; Package: SWT-4; RoHS: Comply; PartType: BUTTON
footprint SWT-4
pins: 1, 2, 3 hidden, 4 hidden

## SX730A
designator D?
MntType: SMD; BOMDescription: SMD  SOT-23     SX730A; MSL: MSL 1; Package: SOT-23; RoHS: Comply; Pins: 3; MPN: SX730A
footprint SOT-23
pins: 1 IN, 2 GND, 3 OUT

## SY100EP196VTG
designator DD?
MPN: SY100EP196VTG
part A pins: 1 D8 (in), 2 D9 (in), 3 D10 (io), 4 IN (in), 5 ~{IN} (in), 10 LEN (in), 11 SETMIN (in), 12 SETMAX (in), 14 ~{CASCADE} (out), 15 CASCADE (out), 16 ~{EN} (in), 20 ~{Q} (out), 21 Q (out), 23 D0 (in), 25 D1 (in), 26 D2 (in), 27 D3 (in), 29 D4 (in), 30 D5 (in), 31 D6 (in), 32 D7 (in)
part B pins: 6 VBB (power), 7 VEF (out), 8 VCF (power), 9 VEE (power), 13 VCC (power), 17 FTUNE (in), 18 VCC (power), 19 VCC (power), 22 VCC (power), 24 VEE (power), 28 VEE (power)

## T_671143.011_01
designator T2, comment T_671143.011-01
Partnumber: СПМЕ.671143.011-01; Manufacturer: Транслед; Part Number BOM: Трансформатор СПМЕ.671143.011-01 Транслед; Код: 7; Component: Трансформатор; Type: T; Footprint: TRANS_671143.011_01
pins: 2, 5, 6, 7, 8, 11

## TCXO_10pin
designator Q?, comment 7N-38.880MBP-T
38.88 MHz TCXO CMOS Oscillator 3.3V Enable/Disable 10-SMD, No Lead
pins: 1 NC, 2 NC, 3 NC, 4 GND, 5 Output, 6 NC, 7 NC, 8 Tri-state, 9 VCC, 10 GND

## TDK-B39871B3725U410-6
designator DD?
pins: 1, 2 IN, 3, 4, 5 OUT, 6
text: GND

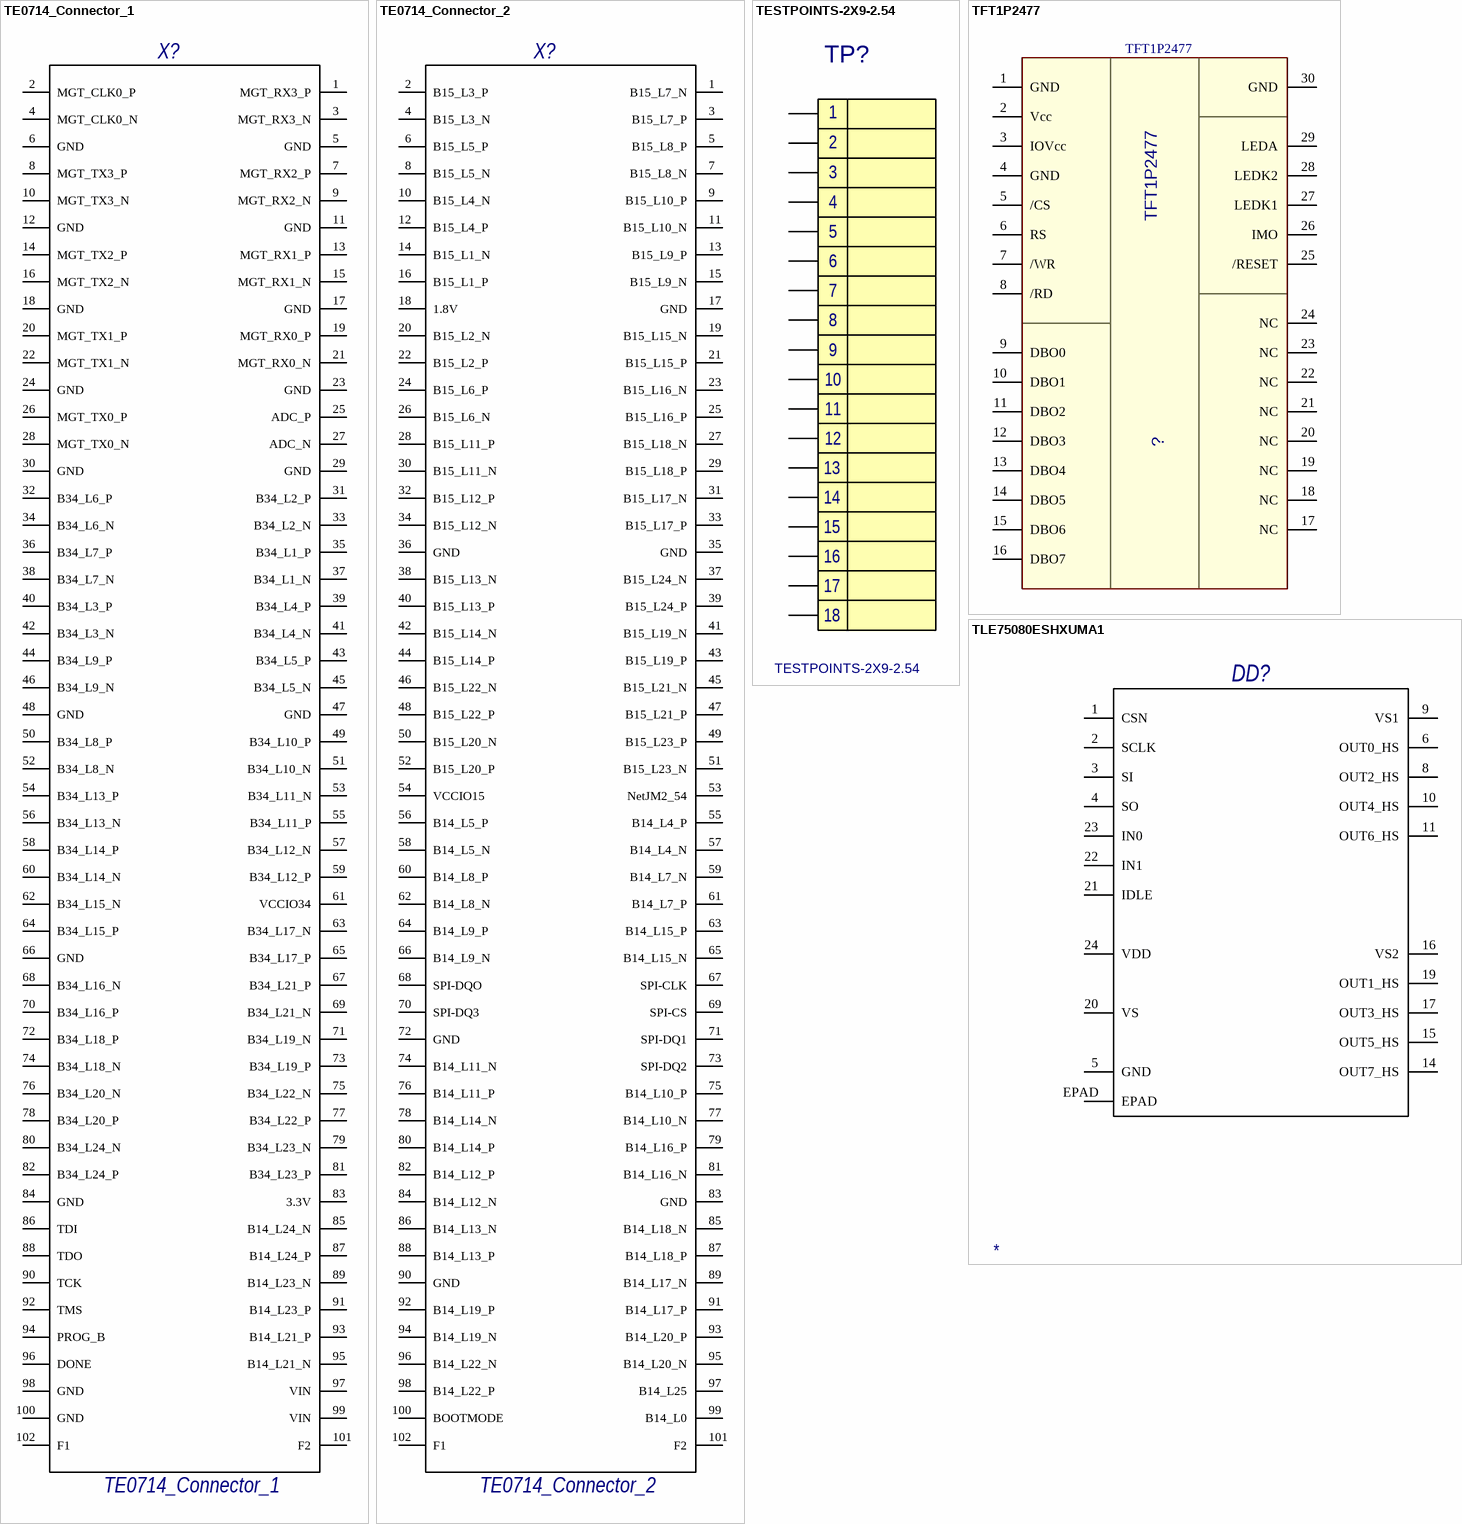
[diagram p26: symbols TE0714_Connector_1 to TLE75080ESHXUMA1]

## TE0714_Connector_1
designator X?
pins: 1 MGT_RX3_P, 2 MGT_CLK0_P, 3 MGT_RX3_N, 4 MGT_CLK0_N, 5 GND, 6 GND, 7 MGT_RX2_P, 8 MGT_TX3_P, 9 MGT_RX2_N, 10 MGT_TX3_N, 11 GND, 12 GND, 13 MGT_RX1_P, 14 MGT_TX2_P, 15 MGT_RX1_N, 16 MGT_TX2_N, 17 GND, 18 GND, 19 MGT_RX0_P, 20 MGT_TX1_P, 21 MGT_RX0_N, 22 MGT_TX1_N, 23 GND, 24 GND, 25 ADC_P, 26 MGT_TX0_P, 27 ADC_N, 28 MGT_TX0_N, 29 GND, 30 GND, 31 B34_L2_P, 32 B34_L6_P, 33 B34_L2_N, 34 B34_L6_N, 35 B34_L1_P, 36 B34_L7_P, 37 B34_L1_N, 38 B34_L7_N, 39 B34_L4_P, 40 B34_L3_P, 41 B34_L4_N, 42 B34_L3_N, 43 B34_L5_P, 44 B34_L9_P, 45 B34_L5_N, 46 B34_L9_N, 47 GND, 48 GND, 49 B34_L10_P, 50 B34_L8_P, 51 B34_L10_N, 52 B34_L8_N, 53 B34_L11_N, 54 B34_L13_P, 55 B34_L11_P, 56 B34_L13_N, 57 B34_L12_N, 58 B34_L14_P, 59 B34_L12_P, 60 B34_L14_N, 61 VCCIO34, 62 B34_L15_N, 63 B34_L17_N, 64 B34_L15_P, 65 B34_L17_P, 66 GND, 67 B34_L21_P, 68 B34_L16_N, 69 B34_L21_N, 70 B34_L16_P, 71 B34_L19_N, 72 B34_L18_P, 73 B34_L19_P, 74 B34_L18_N, 75 B34_L22_N, 76 B34_L20_N, 77 B34_L22_P, 78 B34_L20_P, 79 B34_L23_N, 80 B34_L24_N, 81 B34_L23_P, 82 B34_L24_P, 83 3.3V, 84 GND, 85 B14_L24_N, 86 TDI, 87 B14_L24_P, 88 TDO, 89 B14_L23_N, 90 TCK, 91 B14_L23_P, 92 TMS, 93 B14_L21_P, 94 PROG_B, 95 B14_L21_N, 96 DONE, 97 VIN, 98 GND, 99 VIN, 100 GND, 101 F2, 102 F1

## TE0714_Connector_2
designator X?
pins: 1 B15_L7_N, 2 B15_L3_P, 3 B15_L7_P, 4 B15_L3_N, 5 B15_L8_P, 6 B15_L5_P, 7 B15_L8_N, 8 B15_L5_N, 9 B15_L10_P, 10 B15_L4_N, 11 B15_L10_N, 12 B15_L4_P, 13 B15_L9_P, 14 B15_L1_N, 15 B15_L9_N, 16 B15_L1_P, 17 GND, 18 1.8V, 19 B15_L15_N, 20 B15_L2_N, 21 B15_L15_P, 22 B15_L2_P, 23 B15_L16_N, 24 B15_L6_P, 25 B15_L16_P, 26 B15_L6_N, 27 B15_L18_N, 28 B15_L11_P, 29 B15_L18_P, 30 B15_L11_N, 31 B15_L17_N, 32 B15_L12_P, 33 B15_L17_P, 34 B15_L12_N, 35 GND, 36 GND, 37 B15_L24_N, 38 B15_L13_N, 39 B15_L24_P, 40 B15_L13_P, 41 B15_L19_N, 42 B15_L14_N, 43 B15_L19_P, 44 B15_L14_P, 45 B15_L21_N, 46 B15_L22_N, 47 B15_L21_P, 48 B15_L22_P, 49 B15_L23_P, 50 B15_L20_N, 51 B15_L23_N, 52 B15_L20_P, 53 NetJM2_54, 54 VCCIO15, 55 B14_L4_P, 56 B14_L5_P, 57 B14_L4_N, 58 B14_L5_N, 59 B14_L7_N, 60 B14_L8_P, 61 B14_L7_P, 62 B14_L8_N, 63 B14_L15_P, 64 B14_L9_P, 65 B14_L15_N, 66 B14_L9_N, 67 SPI-CLK, 68 SPI-DQO, 69 SPI-CS, 70 SPI-DQ3, 71 SPI-DQ1, 72 GND, 73 SPI-DQ2, 74 B14_L11_N, 75 B14_L10_P, 76 B14_L11_P, 77 B14_L10_N, 78 B14_L14_N, 79 B14_L16_P, 80 B14_L14_P, 81 B14_L16_N, 82 B14_L12_P, 83 GND, 84 B14_L12_N, 85 B14_L18_N, 86 B14_L13_N, 87 B14_L18_P, 88 B14_L13_P, 89 B14_L17_N, 90 GND, 91 B14_L17_P, 92 B14_L19_P, 93 B14_L20_P, 94 B14_L19_N, 95 B14_L20_N, 96 B14_L22_N, 97 B14_L25, 98 B14_L22_P, 99 B14_L0, 100 BOOTMODE, 101 F2, 102 F1

## TESTPOINTS-2X9-2.54
designator TP?  (graphical)
MntType: SMD; MSL: MSL 1; RoHS: Comply; BOMDescription: SMD
footprint TESTPOINTS-2X9-2.54
pins: 1, 2, 3, 4, 5, 6, 7, 8, 9, 10, 11, 12, 13, 14, 15, 16, 17, 18

## TFT1P2477
designator ?
MntType: SMD; BOMDescription: SMD TFT DISPLAY TFT1P2477     TFT1P2477; MSL: MSL 1; Package: TFT1P2477; RoHS: Comply; PartType: TFT DISPLAY; MPN: TFT1P2477
footprint 30PIN-PAD-0.5-0.5
pins: 1 GND, 2 Vcc, 3 IOVcc, 4 GND, 5 /CS, 6 RS, 7 /WR, 8 /RD, 9 DBO0, 10 DBO1, 11 DBO2, 12 DBO3, 13 DBO4, 14 DBO5, 15 DBO6, 16 DBO7, 17 NC, 18 NC, 19 NC, 20 NC, 21 NC, 22 NC, 23 NC, 24 NC, 25 /RESET, 26 IMO, 27 LEDK1, 28 LEDK2, 29 LEDA, 30 GND

## TLE75080ESHXUMA1
designator DD?
8-channel High-Side SPI Power Switch; MPN: *
pins: 1 CSN, 2 SCLK, 3 SI, 4 SO, 5 GND, 6 OUT0_HS, 8 OUT2_HS, 9 VS1, 10 OUT4_HS, 11 OUT6_HS, 14 OUT7_HS, 15 OUT5_HS, 16 VS2, 17 OUT3_HS, 19 OUT1_HS, 20 VS, 21 IDLE, 22 IN1, 23 IN0, 24 VDD, EPAD

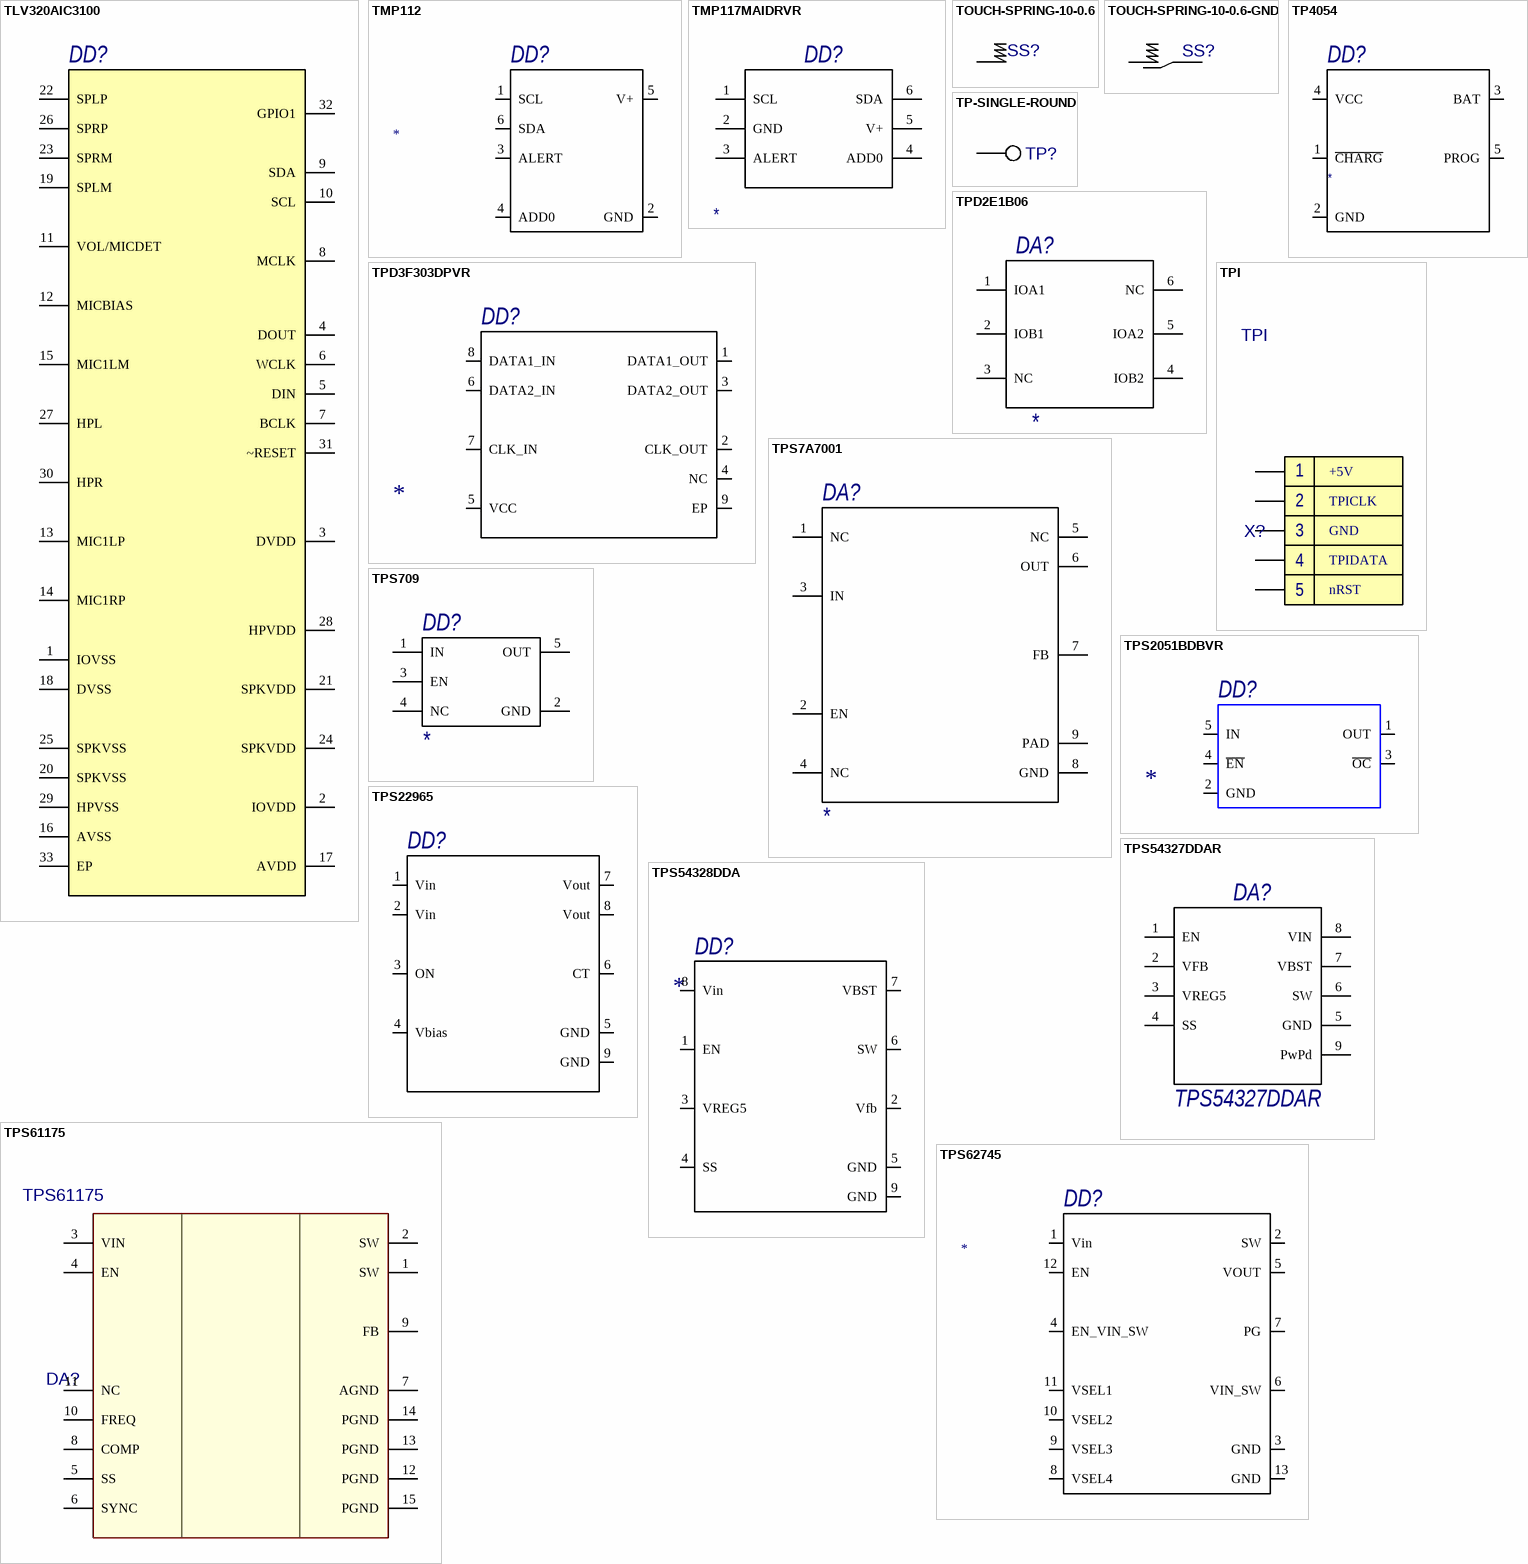
[diagram p27: symbols TLV320AIC3100 to TPS62745]

## TLV320AIC3100
designator DD?
Integrated Circuit; Manufacturer_Name: Texas Instruments; Manufacturer_Part_Number: TLV320AIC3100IRHBR; Datasheet Link: http://www.ti.com/lit/gpn/tlv320aic3100; Mouser Part Number: 595-V320AIC3100IRHBR; Mouser Price/Stock: https://www.mouser.com/Search/Refine.aspx?Keyword=595-V320AIC3100IRHBR
pins: 1 IOVSS, 2 IOVDD, 3 DVDD, 4 DOUT, 5 DIN, 6 WCLK, 7 BCLK, 8 MCLK, 9 SDA, 10 SCL, 11 VOL/MICDET, 12 MICBIAS, 13 MIC1LP, 14 MIC1RP, 15 MIC1LM, 16 AVSS, 17 AVDD, 18 DVSS, 19 SPLM, 20 SPKVSS, 21 SPKVDD, 22 SPLP, 23 SPRM, 24 SPKVDD, 25 SPKVSS, 26 SPRP, 27 HPL, 28 HPVDD, 29 HPVSS, 30 HPR, 31 ~RESET, 32 GPIO1, 33 EP

## TMP112
designator DD?
pins: 1 SCL, 2 GND, 3 ALERT, 4 ADD0, 5 V+, 6 SDA

## TMP117MAIDRVR
designator DD?
Digital Temperature Sensor -55 +150; MPN: *
pins: 1 SCL, 2 GND, 3 ALERT, 4 ADD0, 5 V+, 6 SDA

## TOUCH-SPRING-10-0.6
designator SS?  (value not drawn)  (no BOM)
MntType: SMD; MSL: MSL 1; RoHS: Comply; BOMDescription: SMD
footprint TOUCH-SPRING-10-0.6
pins: 1

## TOUCH-SPRING-10-0.6-GND
designator SS?  (value not drawn)  (mechanical)
MntType: SMD; MSL: MSL 1; RoHS: Comply; BOMDescription: SMD
footprint TOUCH-SPRING-10-0.6-GND
pins: 1, 2

## TP4054
designator DD?
MPN: *
pins: 1 ~{CHARG}, 2 GND, 3 BAT, 4 VCC, 5 PROG

## TP-SINGLE-ROUND
designator TP?  (value not drawn)  (no BOM)
MntType: SMD; MSL: MSL 1; RoHS: Comply; BOMDescription: SMD
footprint TP-ROUND-TOP-1.5
footprint TP-ROUND-TOP-1.0
pins: 1

## TPD2E1B06
designator DA?
MPN: *; ComponentLink1Description: Datasheet
pins: 1 IOA1, 2 IOB1, 3 NC, 4 IOB2, 5 IOA2, 6 NC

## TPD3F303DPVR
designator DD?
pins: 1 DATA1_OUT "Data and Rest signals Output pin. The DATA1 and DATA2 are symmetric circuits.They can be used interchangeably for either DATA or RESET pins based off board layout scheme.", 2 CLK_OUT "Clock Output signal.", 3 DATA2_OUT "Data and Rest signals Output pin. The DATA1 and DATA2 are symmetric circuits.They can be used interchangeably for either DATA or RESET pins based off board layout scheme.", 4 NC "Not connected to any internal circuit. Leave this pin floating.", 5 VCC (power) "ESD Clamp circuit for the VCC pin.", 6 DATA2_IN "Data and Rest signals Input pin. The DATA1 and DATA2 are symmetric circuits.They can be used interchangeably for either DATA or RESET pins based off board layout scheme.", 7 CLK_IN "Clock Input signal.", 8 DATA1_IN "Data and Rest signals Input pin. The DATA1 and DATA2 are symmetric circuits.They can be used interchangeably for either DATA or RESET pins based off board layout scheme.", 9 EP (power) "Ground connection for the EMI filter. It is very important to connect the device GND to the printed circuit board ground plane through Vias directly under the package."

## TPI
designator X?
MPN: PLS5; MntType: DIP; BOMDescription: DIP CONNECTOR CONNPLS5     PLS5; MSL: MSL 1; Package: CONNPLS5; RoHS: Comply; PartType: CONNECTOR; Pins: 5
footprint PLS5
pins: 1, 2, 3, 4, 5
text: +5V; TPICLK; GND; TPIDATA; nRST

## TPS7A7001
designator DA?
LDO, 2-Amp with Enable; MPN: *
pins: 1 NC "Not internally connected. The NC pins are not connected to any electrical node. It is  recommended to connect the NC pins to large-area planes.", 2 EN "Enable input. Pulling this pin below 0.5 V turns the regulator off. Connect to VIN if not being  used.", 3 IN "Unregulated supply voltage pin. It is recommended to connect an input capacitor to this pin.", 4 NC "Not internally connected. The NC pins are not connected to any electrical node. It is  recommended to connect the NC pins to large-area planes.", 5 NC "Not internally connected. The NC pins are not connected to any electrical node. It is  recommended to connect the NC pins to large-area planes.", 6 OUT "Regulated output pin. A 4.7-μF or larger capacitor of any type is required for stability", 7 FB "This pin is the output voltage feedback input through voltage dividers", 8 GND "Ground pin", 9 PAD "TI strongly recommends connecting the thermal pad to a large-area ground plane"

## TPS709
designator DD?
MPN: *
pins: 1 IN (power), 2 GND (power), 3 EN, 4 NC, 5 OUT

## TPS2051BDBVR
designator DD?
pins: 1 OUT, 2 GND, 3 ~{OC}, 4 ~{EN}, 5 IN

## TPS22965
designator DD?  (value not drawn)
pins: 1 Vin, 2 Vin, 3 ON, 4 Vbias, 5 GND, 6 CT, 7 Vout, 8 Vout, 9 GND

## TPS54327DDAR
designator DA?
Output Single Synchronous Step-Down Switcher / With Integrated FET
pins: 1 EN, 2 VFB, 3 VREG5, 4 SS, 5 GND, 6 SW, 7 VBST, 8 VIN, 9 PwPd

## TPS54328DDA
designator DD?
pins: 1 EN, 2 Vfb, 3 VREG5, 4 SS, 5 GND, 6 SW, 7 VBST, 8 Vin, 9 GND

## TPS61175
designator DA?
Manufacturer: TI; MntType: SMD; BOMDescription: SMD BOOST CONVERTER HTSSOP14     TPS61175; MPN: TPS61175; MSL: MSL 1; Package: HTSSOP14; RoHS: Comply; PartType: BOOST CONVERTER; Pins: 14
footprint HTSSOP-14
pins: 1 SW, 2 SW, 3 VIN, 4 EN, 5 SS, 6 SYNC, 7 AGND, 8 COMP, 9 FB, 10 FREQ, 11 NC, 12 PGND, 13 PGND, 14 PGND, 15 PGND

## TPS62745
designator DD?
pins: 1 Vin, 2 SW, 3 GND, 4 EN_VIN_SW, 5 VOUT, 6 VIN_SW, 7 PG, 8 VSEL4, 9 VSEL3, 10 VSEL2, 11 VSEL1, 12 EN, 13 GND

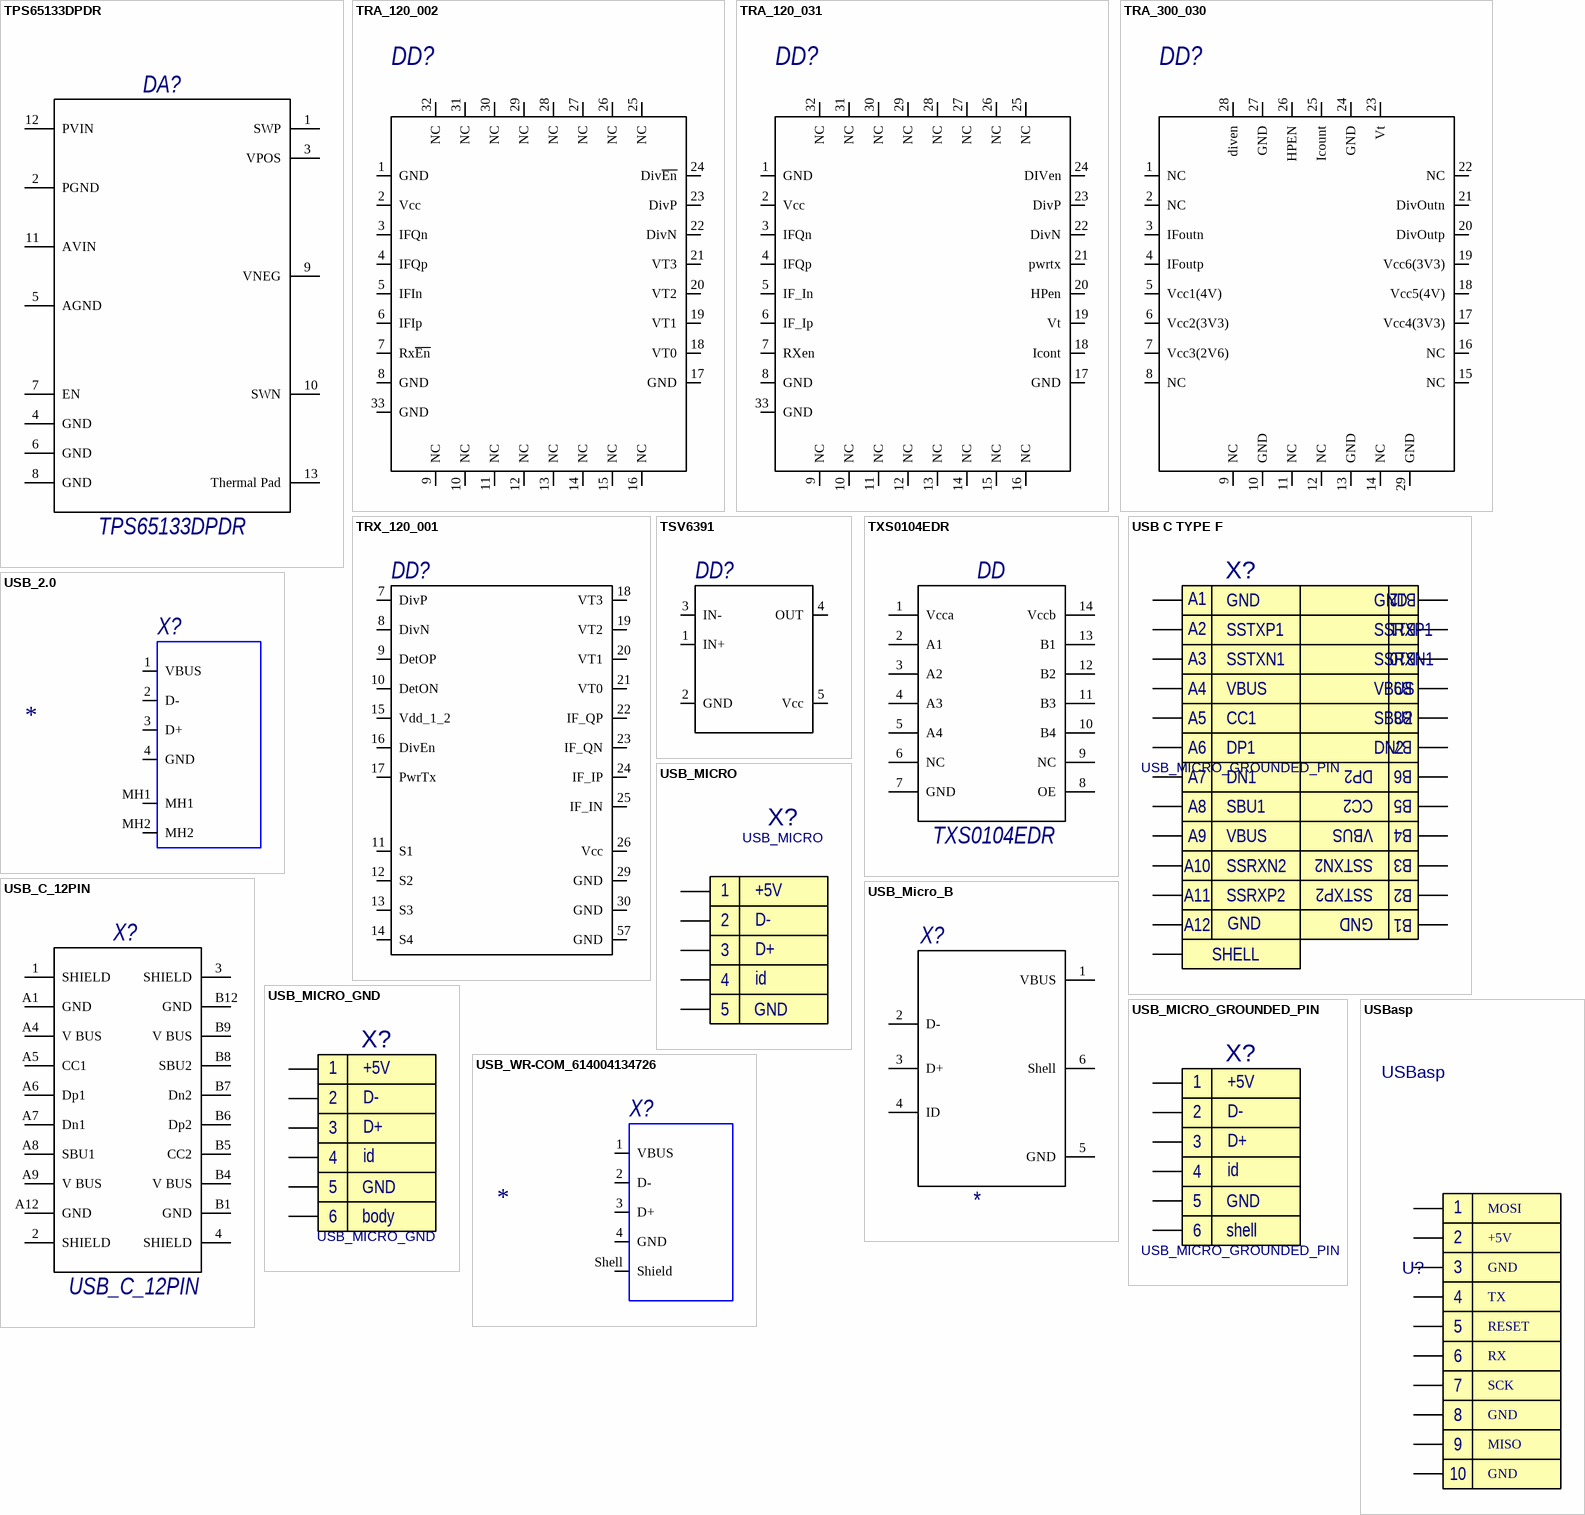
[diagram p28: symbols TPS65133DPDR to USBasp]

## TPS65133DPDR
designator DA?
Dual-Output Power Supply; Number of Channels: 2; Max Supply Voltage: 5V; Min Supply Voltage: 2.9V; Output Voltage: -5V; Mount: Surface Mount; Case/Package: QFN; Packaging: Tape and Reel; Lead Free: Lead Free; Radiation Hardening: No; Min Operating Temperature: -40°C; Number of Outputs: 2; Max Operating Temperature: 85°C; Number of Pins: 12; RoHS Compliant: Yes; Package Quantity: 3000
footprint FP-DPD0012A-IPC_C
footprint FP-DPD0012A-IPC_B
footprint FP-DPD0012A-MFG
footprint FP-DPD0012A-IPC_A
pins: 1 SWP, 2 PGND, 3 VPOS, 4 GND, 5 AGND, 6 GND, 7 EN, 8 GND, 9 VNEG, 10 SWN, 11 AVIN, 12 PVIN, 13 Thermal Pad